# Altium schematic symbol library MS-Electronic.SchLib: 368 symbols (part 2 of 4)
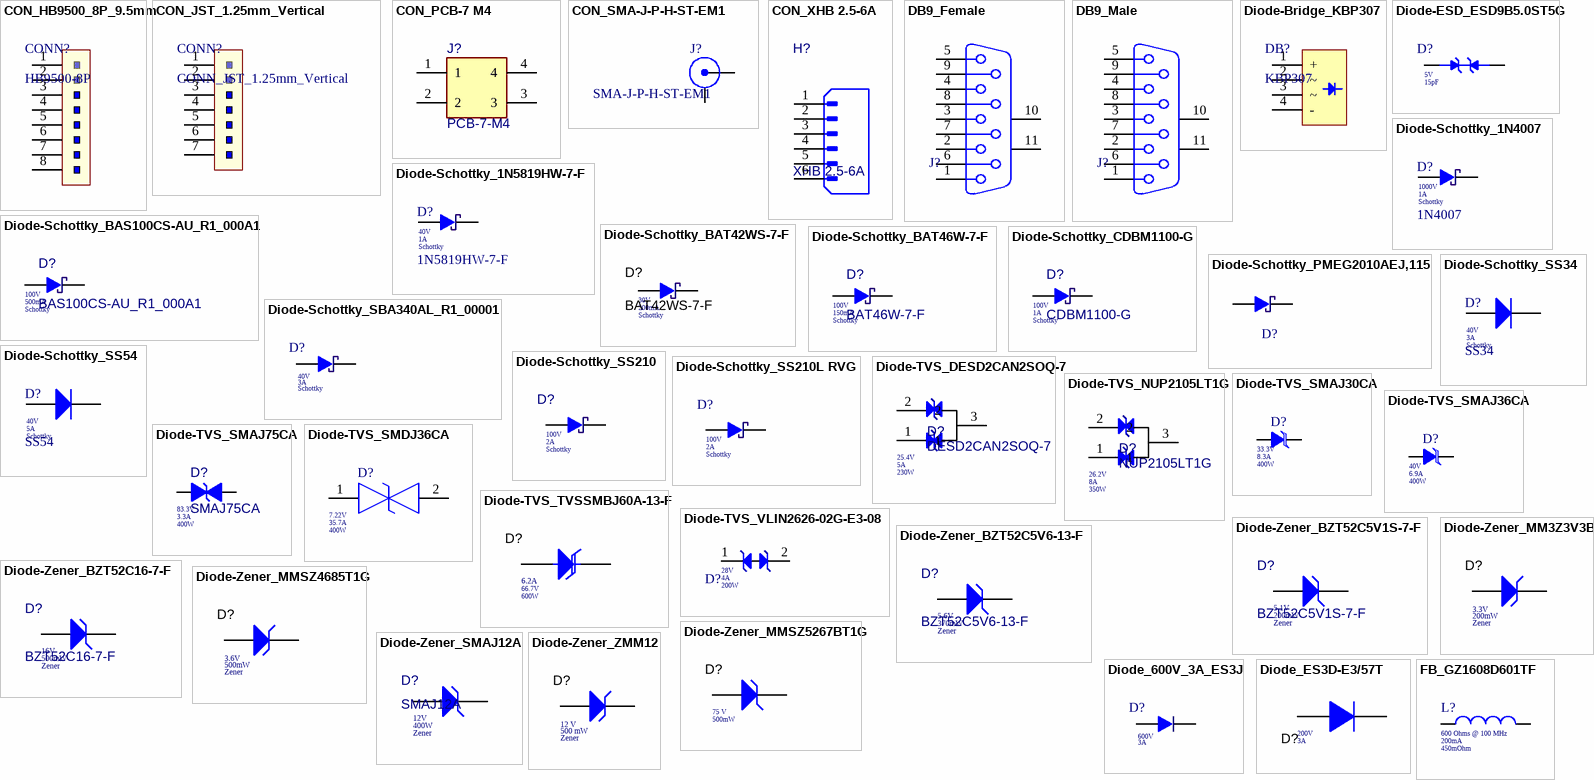
[diagram p12: symbols CON_HB9500_8P_9.5mm to FB_GZ1608D601TF]

## Diode-TVS_NUP2105LT1G
designator D?, comment NUP2105LT1G  Current - Peak Pulse: 8A  Power: 350W  Voltage - Breakdown: 26.2V
TVS DIODE 24VWM 44VC SOT233; Manufacturer: onsemi; Description SEL: TVS DIODE 24VWM 41VC SOT23; Sort: BIDIRECTIONAL; Voltage - Reverse: 24V; Voltage - Clamping: 44V; Part Number: NUP2105LT1G; Footprint Type: SMD; ComponentLink1Description: DIGIKEY; ComponentLink1URL: https://www.digikey.bg/en/products/detail/onsemi/NUP2105LT1G/1749081
footprint DIODE-TVS_NUP2105LT1G_SOT233
pins: 1, 2, 3

## Diode-TVS_SMAJ30CA
designator D?, comment Current: 8.3A  Voltage - Breakdown: 33.3V  Power: 400W  (hidden comment: SMAJ30CA)
TVS DIODE 30VWM 48.4VC DO214AC; Manufacturer: Littelfuse; Voltage - Clamping (Vcl): 48.4V; Polarity: Unidirectional; Voltage - Reverse Standoff (Vrwm): 30V; Diode Type: TVS Diode; Mounting Type: Surface Mount (SMD); Manufacturer Part Number: SMAJ30CA; ComponentLink1Description: CXT; ComponentLink1URL: https://linhkien.cxtvn.com/6001-smaj30ca-tvs-diode-30v-83a-smado-214ac.html; ComponentLink2Description: DIGIKEY; ComponentLink2URL: https://www.digikey.gr/en/products/detail/littelfuse-inc/SMAJ30CA/762295; Package: DO-214AC (SMA)
footprint DO214AC-SMA
pins: 1 C, 2 A

## Diode-TVS_SMAJ36CA
designator D?, comment Current: 6.9A  Voltage - Breakdown: 40V  Power: 400W  (hidden comment: SMAJ36CA)
TVS DIODE 36VWM 58.1VC DO214AC; Manufacturer: Littelfuse; Voltage - Clamping (Vcl): 58.1V; Polarity: Bidirectional; Voltage - Reverse Standoff (Vrwm): 36V; Diode Type: TVS Diode; Mounting Type: Surface Mount (SMD); Manufacturer Part Number: SMAJ36CA; ComponentLink1Description: CXT; ComponentLink1URL: https://linhkien.cxtvn.com/2361-smaj36ca-tvs-diode-36v-581v-smado214ac.html; ComponentLink2Description: DIGIKEY; ComponentLink2URL: https://www.digikey.com/en/products/detail/littelfuse-inc/SMAJ36CA/762299; Package: DO-214AC (SMA)
footprint DO214AC-SMA
pins: 1 C, 2 A

## Diode-TVS_SMAJ75CA
designator D?, comment SMAJ75CA  Current - Peak Pulse: 3.3A  Power - Peak Pulse: 400W  Voltage-Breakdown: 83.3V
121V Clamp 3.3A Ipp Tvs Diode Surface Mount DO-214AC (SMA); Description SEL: TVS DIODE 75VWM 121VC; Voltage-Reverse: 75V; Sort: Bidirectional; Part Number: SMAJ75CA; ComponentLink1Description: DIGIKEY; ComponentLink1URL: https://www.digikey.com/en/products/detail/bourns-inc/SMAJ75CA/2254545; Voltage - Clamping (Max): 121V; Package: DO214AC
footprint DIODE-TVS_DO-214AC_SMAJ75CA
pins: 1 A, 2 K

## Diode-TVS_SMDJ36CA
designator D?, comment Power - Peak Pulse: 400W  Current - Peak Pulse: 35.7A  Voltage - Breakdown (Min): 7.22V  (hidden comment: SMAJ6.5CA)
11.2V Clamp 35.7A Ipp Tvs Diode Surface Mount DO-214AC (SMA); Description SEL: TVS DIODE 6.5VWM 11.2VC DO214AC; Voltage - Reverse: 6.5V; Sort: Bidirectional; Part Number: SMAJ6.5CA; ComponentLink1Description: New link; ComponentLink1URL: https://www.digikey.com/en/products/detail/littelfuse-inc/SMAJ6-5CA/762255; Voltage - Clamping (Max): 11.2V; Package: DO-214AC, SMA
footprint DO-214AC
pins: 1, 2

## Diode-TVS_TVSSMBJ60A-13-F
designator D?, comment Power - Peak Pulse: 600W  Voltage - Breakdown (Min): 66.7V  Current - Peak Pulse: 6.2A  (hidden comment: SMBJ60A-13-F)
96.8V Clamp 6.2A Ipp Tvs Diode Surface Mount SMB; Manufacturer: Diodes Inc.; Description SEL: TVS DIODE 60VWM 96.8VC SMB; Voltage - Reverse: 60V; Part Number: SMBJ60A; ComponentLink1Description: DIGIKEY; ComponentLink1URL: https://www.digikey.bg/en/products/detail/diodes-incorporated/SMBJ60A-13-F/814633?s=N4IgTCBcDaIMoFkBCApAbABgIIFoCMAzDgGIgC6AvkA; Voltage - Clamping (Max): 96.8V
footprint DIODE-TVS_SMBJ60A-13-F
pins: 1 A, 2 K

## Diode-TVS_VLIN2626-02G-E3-08
designator D?, comment Current - Peak Pulse: 4A  Power - Peak Pulse: 200W  Voltage - Breakdown (Min): 28V  (hidden comment: VLIN2626-02G-E3-08)
50V Clamp 4A (8/20µs) Ipp Tvs Diode Surface Mount SOD-323; Manufacturer: Vishay; Description SEL: TVS DIODE 26.5VWM 50VC SOD323; Voltage - Reverse: 26.5V (Max); Part Number: VLIN2626-02G-E3-08; Voltage - Clamping (Max): 50V; ComponentLink1Description: DIGIKEY; ComponentLink1URL: https://www.digikey.com/en/products/detail/vishay-general-semiconductor-diodes-division/VLIN2626-02G-E3-08/6021436?s=N4IgTCBcDaIGoBkCSA5MA2DBaADGA4lgKIDMuAHCALoC%2BQA; Package: SOD-323
footprint DIODE-TVS_26.5V_4A_VLIN2626-02G-E3-08
pins: 1, 2

## Diode-Zener_BZT52C5V1S-7-F
designator D?, comment BZT52C5V1S-7-F  Type: Zener  Voltage: 5.1V  Power: 200mW
Zener Diode 5.1 V 200 mW ±6% Surface Mount SOD-323; Manufacturer: Diodes Incorporated; Part Number: BZT52C5V1S-7-F; Footprint Type: SMD; ComponentLink1Description: DIGIKEY; ComponentLink1URL: https://www.digikey.bg/en/products/detail/diodes-incorporated/BZT52C5V1S-7-F/717737; Package: SOD-123
footprint DIODE-ZENER_BZT52C5V1S-7-F_SOD323
pins: 1 A, 2 K

## Diode-Zener_BZT52C5V6-13-F
designator D?, comment BZT52C5V6-13-F  Type: Zener  Voltage: 5.6V  Power: 370mW
DIODE ZENER 5.6V 370MW SOD123; Manufacturer: Diodes Incorporated; Part Number: BZT52C5V6-13-F; Footprint Type: SMD; Description SEL: DIODE ZENER 5.6V 370MW SOD123; ComponentLink1Description: DIGIKEY; ComponentLink1URL: https://www.digikey.com/en/products/detail/diodes-incorporated/BZT52C5V6-13-F/1534399?s=N4IgTCBcDaIEIC0AqBWMBhFA1AbAWgEYBmPAMRAF0BfIA; Package: SOD123
footprint DIODE-ZENER_BZT52C5V6-13-F
pins: 1 A, 2 K

## Diode-Zener_BZT52C16-7-F
designator D?, comment BZT52C16-7-F  Type: Zener  Voltage: 16V  Power: 500mW
Zener Diode 16 V 500 mW ±6% Surface Mount SOD-123; Manufacturer: Diodes Incorporated; Description SEL: DIODE ZENER 16V 500MW SOD123; Part Number: BZT52C16-7-F; Footprint Type: SMD; ComponentLink1Description: DIGIKEY; ComponentLink1URL: https://www.digikey.com/en/products/detail/diodes-incorporated/BZT52C16-7-F/717729?s=N4IgTCBcDaIEIC0AqBWMBhAjANgLQHZcAxEAXQF8g; Package: SOD-123
footprint DIODE-ZENER_16V_500mW_BZT52C16-7-F
pins: 1 A, 2 K

## Diode-Zener_MM3Z3V3B
designator D?, comment Type: Zener  Power: 200mW  Voltage: 3.3V  (hidden comment: MM3Z3V3B)
Zener Diode 3.3 V 200 mW ±2% Surface Mount SOD-323F; Manufacturer: ON Semiconductor; Part Number: MM3Z3V3B; ComponentLink1Description: DIGIKEY; ComponentLink1URL: https://www.digikey.com/en/products/detail/onsemi/MM3Z3V3B/1626765?s=N4IgTCBcDaILJwMwC1EDVECEAqAlAtAHIAiIAugL5A; Package: SOD-323F; Operating Temperature: -65°C ~ 150°C; MSL: 1
footprint DIODE-ZENER_SOD-323FL_MM3Z3V3B
pins: 1 A, 2 K

## Diode-Zener_MMSZ4685T1G
designator D?, comment Type: Zener  Power: 500mW  Voltage: 3.6V  (hidden comment: MMSZ4685T1G)
Zener Diode 3.6 V 500 mW ±5% Surface Mount SOD-123; Manufacturer: ON Semiconductor; Part Number: BZT52C3V6-7-F; Description SEL: DIODE ZENER 3.6V 500MW SOD123; ComponentLink1Description: DIGIKEY; ComponentLink1URL: https://www.digikey.com/en/products/detail/onsemi/MMSZ4685T1G/919719; Package: SOD-123
footprint DIODE-ZENER_3.6V_500mW_MMSZ4685T1G
pins: 1 A, 2 K

## Diode-Zener_MMSZ5267BT1G
designator D?, comment Power: 500mW  Voltage: 75 V  (hidden comment: MMSZ5267BT1G)
Diode, Zener, 75V, 500 mW, AEC-Q101, SOD-123; Manufacturer: ONSEMI; Description SEL: DIODE ZENER 75V 500MW SOD123; Part Number: MMSZ5267BT1G; Footprint Type: SMD; Package: SOD-123; ComponentLink1Description: DIGIKEY; ComponentLink1URL: https://www.digikey.bg/en/products/detail/onsemi/MMSZ5267BT1G/1749051
footprint DIODE-ZENER_MMSZ5267BT1G_SOD123
pins: 1 A, 2 K

## Diode-Zener_SMAJ12A
designator D?, comment SMAJ12A  Voltage: 12V  Power: 400W  Type: Zener
19.9V Clamp 20.1A Ipp Tvs Diode Surface Mount DO-214AC (SMA); Manufacturer: MDD; Description SEL: TVS DIODE 12VWM 19.9VC DO214AC; Footprint Type: SMD; ComponentLink1Description: TGIC; ComponentLink1URL: https://www.thegioiic.com/smaj12a; ComponentLink2Description: DIGIKEY; ComponentLink2URL: https://www.digikey.bg/en/products/detail/littelfuse-inc/SMAJ12A/762270; Package: DO-214AC
footprint DIODE-ZENER_SMAJ12A_DO-214AC
pins: 1 A, 2 K

## Diode-Zener_ZMM12
designator D?, comment Type: Zener  Power: 500 mW  Voltage: 12 V  (hidden comment: ZMM12)
DIODE ZENER 12V 500MW SOD80C; Manufacturer: Diotec Semiconductor; Part Number: ZMM12; ComponentLink1Description: BLK; ComponentLink1URL: https://banlinhkien.com/diode-zener-12w-12v-smd1206-zmm12-10c-p16838193.html; Package: DO-213AC; Operating Temperature: -50°C ~ 175°C; MSL: 1; ComponentLink2Description: DIGIKEY; ComponentLink2URL: https://www.digikey.com/en/products/detail/diotec-semiconductor/ZMM12/13155247
footprint DIODE-ZENER_ZMM12
pins: 1 K, 2 A

## Diode_600V_3A_ES3J
designator D?, comment Current: 3A  Voltage: 600V  (hidden comment: ES3J)
Diode 600 V 3A Surface Mount DO-214AB (SMC); ComponentLink1Description: TGIC; ComponentLink1URL: https://www.thegioiic.com/es3j-smc-diode-chinh-luu-3a-600v?gidzl=aC7rEZVjhncHsVSrDlQc79JQ-30fzlDFsDsiP7_s_KYAt_Sr8QQc6z7Q_p0ZzgSSWut_FsMJ6caRD-kg6G; ComponentLink2Description: DIGIKEY; ComponentLink2URL: https://www.digikey.com/en/products/detail/onsemi/ES3J/1087635
footprint Diode_600V_3A_ES3J
pins: 1 A, 2 K

## Diode_ES3D-E3/57T
designator D?, comment Voltage: 200V  Current: 3A  (hidden comment: ES3D-E3/57T)
Diode 200 V 3A Surface Mount DO-214AB (SMC); Manufacturer: Vishay-Semiconductor; Description SEL: DIODE GEN PURP 200V 3A DO214AB; Part Number: ES3D-E3/57T; Footprint Type: SMD; ComponentLink1Description: DIGIKEY; ComponentLink1URL: https://www.digikey.bg/en/products/detail/vishay-general-semiconductor-diodes-division/ES3D-E3-57T/1091448?s=N4IgTCBcDaIKIGUDMARAtHJB6ArAdgBUQBdAXyA; Package: DO-214AB (SMC)
footprint DIODE_ES3D-E3/57T_DO214AB
pins: 1 A, 2 K

## FB_GZ1608D601TF
designator L?, comment DC Resistance: 450mOhm  Current Rating (Max): 200mA  Impedance @ Frequency: 600 Ohms @ 100 MHz  (hidden comment: GZ1608D601TF)
600Ω @ 100MHz 1 200mA 450mΩ 0603 Ferrite Beads ROHS; Manufacturer: Sunlord; Manufacturer Part Number: GZ1608D601TF; LCSC Part Number: C1002; Package: 0603; Assembly Type: SMT Assembly; ComponentLink1Description: New link; ComponentLink1URL: https://www.digikey.com/en/products/detail/shenzhen-sunlord-electronics-co-ltd/GZ1608D601TF/14120345?s=N4IgTCBcDaIOIC0CMA2ADADgCLqQFQDEQBdAXyA
footprint FB_GZ1608D601TF
pins: 1, 2

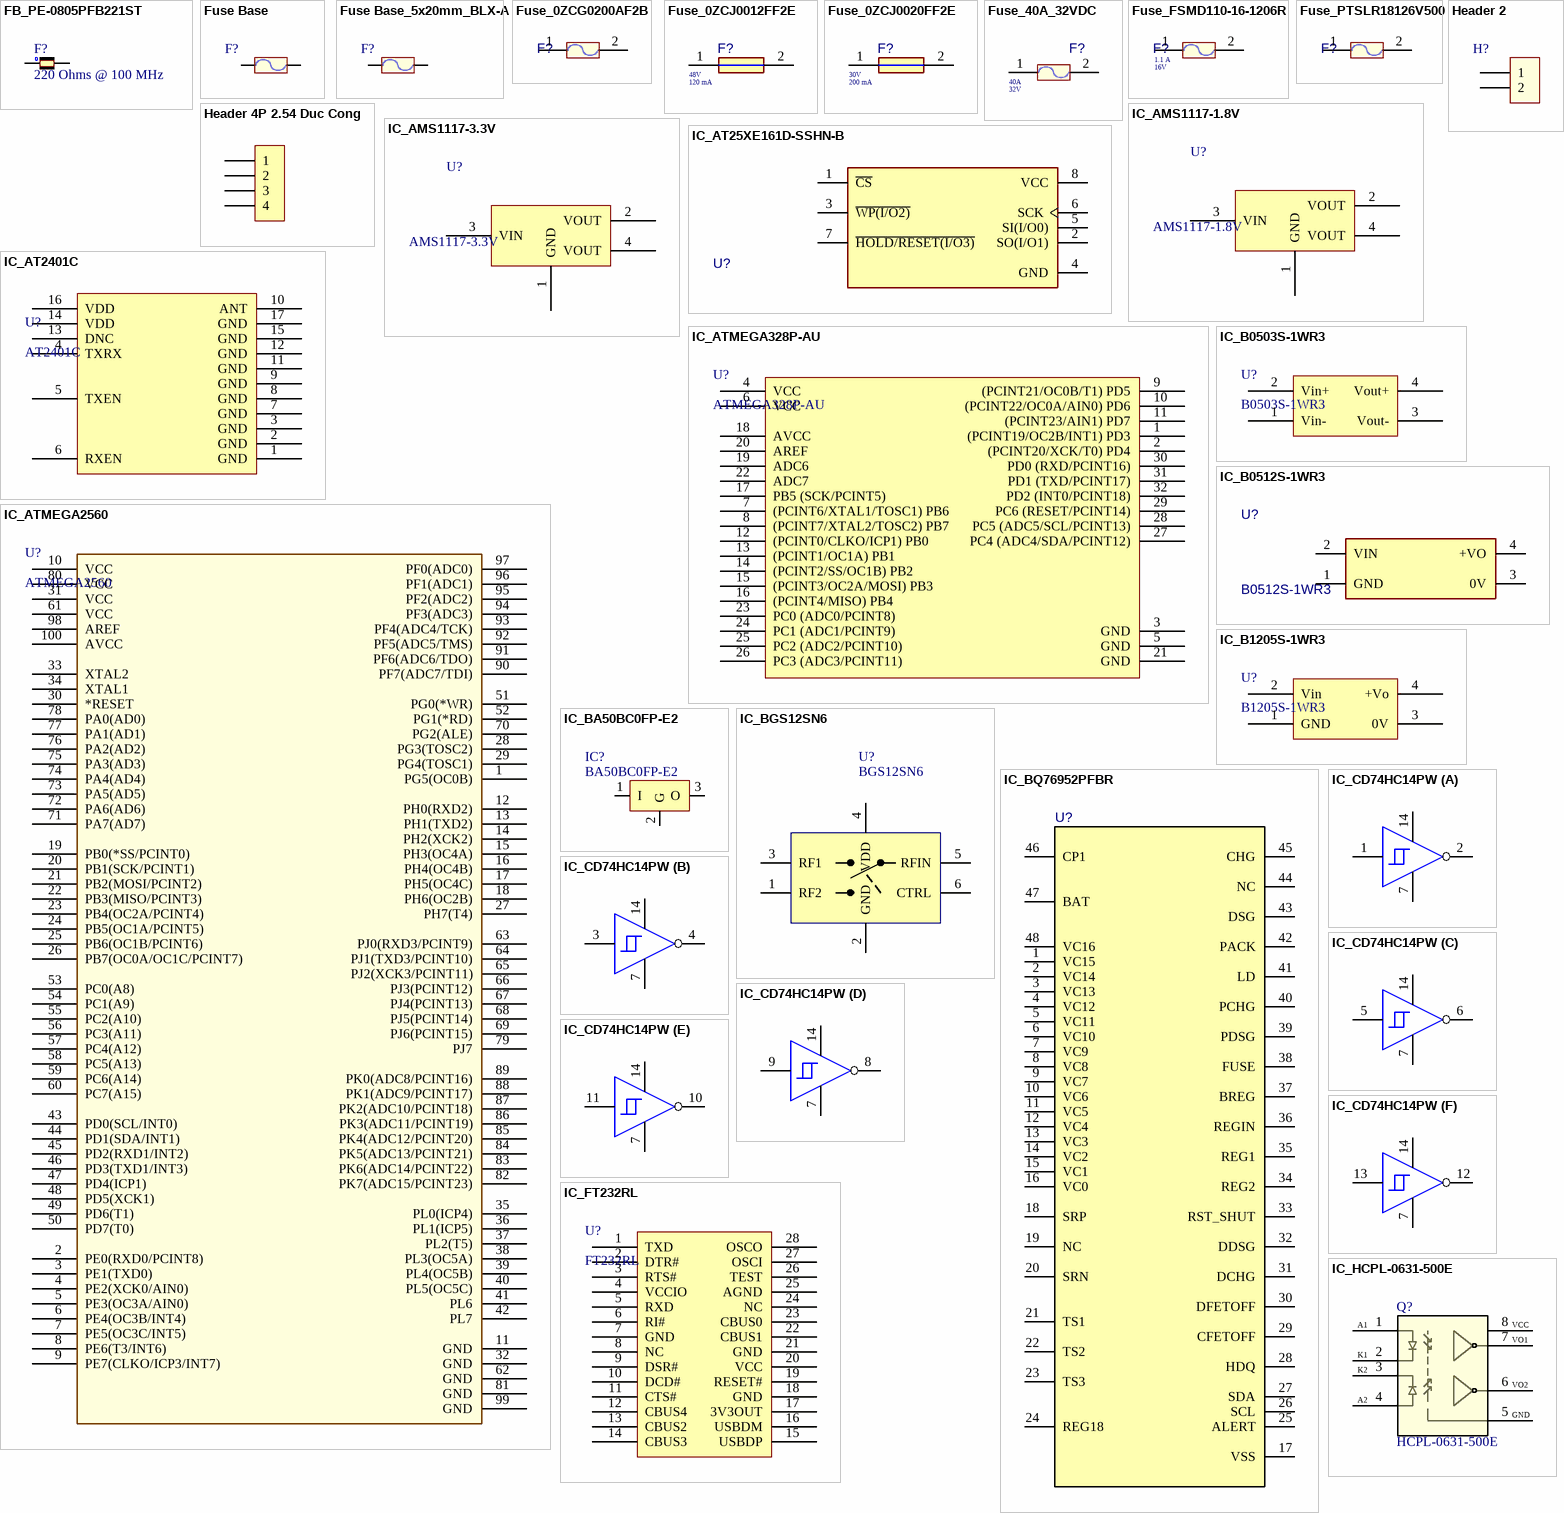
[diagram p3: symbols FB_PE-0805PFB221ST to IC_HCPL-0631-500E]

## FB_PE-0805PFB221ST
designator F?, comment value 220 Ohms @ 100 MHz  (hidden comment: PE-0805PFB221ST)
FERRITE BEAD 220 OHM 0805 1LN; Manufacturer: Pulse Electronics Network; Category: Filters; Part Number: PE-0805PFB221ST; Footprint/Package: 0805; Footprint type: SMD; ComponentLink2Description: DIGIKEY; ComponentLink2URL: https://www.digikey.com/en/products/detail/pulse-electronics/PE-0805PFB221ST/5050550?s=N4IgTCBcDaIAoFEC0AGAHCgrHAYgITDAEYBlAFRAF0BfIA
footprint FB-PE-0805PFB221ST
pins: 1, 2

## Fuse Base
designator F?  (value not drawn)
Fuse Base 5x20mm; Value: Fuse Base; Demension: 5x20mm; ComponentLink1Description: LKCL; ComponentLink1URL: https://linhkienchatluong.vn/de-cau-chi-cac-loai/de-cau-chi-5x20mm-chan-dong_sp767_ct4075.aspx
pins: 1, 2

## Fuse Base_5x20mm_BLX-A
designator F?, comment BLX-A  (value not drawn)
5x20mm; Part Number: BLX-A; Dimension: 5x20mm; ComponentLink1Description: BLK; ComponentLink1URL: https://banlinhkien.com/de-cau-chi-blxa-5x20mm-5-chiec-p22613696.html
footprint De Cau Chi BLX-A 520 (PCB - Clip Cover - THR)
pins: 1, 2

## Fuse_0ZCG0200AF2B
designator F?, comment 0ZCG0200AF2B  (value not drawn)
PTC RESET FUSE 16V 2A 1812; Manufacturer: Bel Fuse Inc.; Value: 2A/16V; Manufacturer Part Number: 0ZCG0200AF2B; ComponentLink1Description: DIGIKEY; ComponentLink1URL: https://www.digikey.bg/en/products/detail/bel-fuse-inc/0ZCG0200AF2B/6210545?s=N4IgTCBcDaIAwC0DCBxOY5wIIDEwCEQBdAXyA; ComponentLink2Description: CXT; ComponentLink2URL: https://linhkien.cxtvn.com/5126-cau-chi-tu-phuc-hoi-pptc-smd1812.html
footprint FUSE_0ZCG0200AF2B
pins: 1, 2

## Fuse_0ZCJ0012FF2E
designator F?, comment Current - Hold (Ih) (Max): 120 mA  Voltage - Max: 48V  (hidden comment: 0ZCJ0012FF2E)
PTC RESET FUSE 48V 120MA 1206; Manufacturer: Bel Circuit Protection; Current - Trip (It): 390 mA; Current - Max: 10 A; Part Number: 0ZCJ0012FF2E; Description SEL: PTC RESET FUSE 48V 120MA 1206; Size: 1206; ComponentLink2Description: DIGIKEY; ComponentLink2URL: https://www.digikey.bg/en/products/detail/bel-fuse-inc/0ZCJ0012FF2E/4156129?s=N4IgTCBcDaIAwC0DCApOcCMYBi2wFEQBdAXyA; Sort: PTC RESET
footprint FUSE_0ZCJ0020FF2E
pins: 1, 2

## Fuse_0ZCJ0020FF2E
designator F?, comment Current - Hold (Ih) (Max): 200 mA  Voltage - Max: 30V  (hidden comment: 0ZCJ0020FF2E)
PTC RESET FUSE 30V 200MA 1206; Manufacturer: Bel Circuit Protection; Current - Trip (It): 400 mA; Current - Max: 10 A; Part Number: 0ZCJ0020FF2E; Description SEL: PTC RESET FUSE 30V 200MA 1206; Size: 1206; ComponentLink1Description: TGIC; ComponentLink1URL: https://www.thegioiic.com/0zcj0020ff2e-cau-chi-tu-phuc-hoi-1206-30v-200ma; ComponentLink2Description: DIGIKEY; ComponentLink2URL: https://www.digikey.com/en/products/detail/bel-fuse-inc/0ZCJ0020FF2E/4156326; Sort: PTC RESET
footprint FUSE_0ZCJ0020FF2E
pins: 1, 2

## Fuse_40A_32VDC
designator F?, comment Voltage Rating - DC: 32V  Current Rating (Amps): 40A  (hidden comment: 0287030.PXCN)
40 A AC 32 V DC Fuse Automotive Requires Holder Blade, ATO/ATC; Manufacturer: LITTELFUSE; Part Number: 0287040.PXCN; Description SEL: FUSE AUTOMOTIVE 40A 32VDC BLADE; Sort: AUTO; Footprint Type: TH; ComponentLink1Description: LKCL; ComponentLink1URL: https://linhkienchatluong.vn/cau-chi-dep-o-to-xe-may/cau-chi-dep-40a-32v-chan-nho-cho-o-to-xe-may_sp996_ct14638.aspx; ComponentLink2Description: DIGIKEY; ComponentLink2URL: https://www.digikey.bg/en/products/detail/littelfuse-inc/0287040-PXCN/2519817?s=N4IgTCBcDaIAxgBwHY4BY4DoAKANAwgHIgC6AvkA; Package: 0.752" L x 0.201" W x 0.484" H (19.10mm x 5.10mm x 12.30mm)
footprint FUSE_TH_30A
pins: 1, 2

## Fuse_FSMD110-16-1206R
designator F?, comment Voltage - Max: 16V  Current - Hold (Ih) (Max): 1.1 A  (hidden comment: FSMD110-16-1206R)
RESETTABLE FUSE - SMD, 1206 SIZE; Current - Trip (It): 2.2 A; Current - Max: 100 A; Description SEL: RESETTABLE FUSE - SMD, 1206 SIZE; Part Number: FSMD110-16-1206R; ComponentLink1Description: New link; Sort: RESETTABLE; Package: 1206
footprint FUSE_1206
pins: 1, 2

## Fuse_PTSLR18126V500
designator F?, comment PTSLR18126V500  (value not drawn)
Polymeric PTC Resettable Fuse 6V 5 A Ih Surface Mount 1812 (4532 Metric), Concave; Manufacturer: Eaton - Electronics Division; Value: 5A/6V; Manufacturer Part Number: PTSLR18126V500; ComponentLink1Description: DIGIKEY; ComponentLink1URL: https://www.digikey.bg/en/products/detail/eaton-electronics-division/PTSLR18126V500/12313952; ComponentLink2Description: CXT; ComponentLink2URL: https://linhkien.cxtvn.com/8771-cau-chi-tu-phuc-hoi-pptc-smd1812.html
footprint FUSE_0ZCG0200AF2B
pins: 1, 2

## Header 2
designator H?
Header 2 (Green); Voltage: 300V; Current: 15A; Pitch: 5.08mm; ComponentLink1Description: BLK; ComponentLink1URL: https://banlinhkien.com/con-2-2edg5.082p-5.08mm-xanh-cong-p6651835.html
footprint Header2T
pins: 1, 2

## Header 4P 2.54 Duc Cong
designator H?  (value not drawn)
Header 4P XH2.54-4P Đực Cong; Pitch: 2.54mm; Number Pin: 4; ComponentLink1Description: BLK; ComponentLink1URL: https://banlinhkien.com/header-4p-xh2.544p-duc-cong-10-chiec-p22290874.html
footprint Header 4P 2.54 Duc Cong
pins: 1, 2, 3, 4

## IC_AMS1117-1.8V
designator U?, comment AMS1117-1.8V
Linear Voltage Regulator IC Positive Fixed 1 Output 1A SOT-223-3L; Vout: 1.8V; Vin Max: 18V; ComponentLink1Description: BLK; ComponentLink1URL: https://banlinhkien.com/ams11171.8v-sot223-p6651250.html; Current Max: 1A; Package: SOT-223; Sort: SOT-223
footprint SOT223
pins: 1 GND, 2 VOUT, 3 VIN, 4 VOUT

## IC_AMS1117-3.3V
designator U?, comment AMS1117-3.3V
Linear Voltage Regulator IC Positive Fixed 1 Output 1A SOT-223-3L; Vin Max: 15V; Vout: 3.3; Sort: LDO; ComponentLink1Description: BLK; ComponentLink1URL: https://banlinhkien.com/ams11173.3v-sot223-p6651251.html; Current Max: 1A; Package: SOT-223
footprint SOT223
pins: 1 GND, 2 VOUT, 3 VIN, 4 VOUT

## IC_AT25XE161D-SSHN-B
designator U?, comment AT25XE161D-SSHN-B  (value not drawn)
NOR Flash 16 Mbit, Wide Vcc (1.65V to 3.6V); Manufacturer: Renesas Electronics Corporation; Description SEL: IC FLASH 16MBIT SPI/QUAD 8SOIC; Cross Component: W25Q80DVSSIG; Part Number: AT25XE161D-SSHN-B; ComponentLink1Description: DIGIKEY; ComponentLink1URL: https://www.digikey.bg/en/products/detail/renesas-electronics-corporation/AT25XE161D-SSHN-B/18717039; Sort: FLASH
footprint IC_AT25XE161D-SSHN-B
pins: 1 ~{CS}, 2 SO(I/O1), 3 ~{WP(I/O2)}, 4 GND, 5 SI(I/O0), 6 SCK, 7 ~{HOLD/RESET(I/O3)}, 8 VCC

## IC_AT2401C
designator U?, comment AT2401C
ZigBee 2V~3.6V QFN-16-EP(3x3) RF Front End Circuits ROHS; Sort: RF and Wireless; ComponentLink1Description: Aliexpress; ComponentLink1URL: https://vi.aliexpress.com/i/1005004853615083.html?gatewayAdapt=glo2vnm; Package: QFN-16-EP(3x3); ComponentLink2Description: LCSC; ComponentLink2URL: https://www.lcsc.com/product-detail/RF-Front-End-Circuits_ZHONGKEWEI-AT2401C_C783588.html
footprint IC_AT2401C
pins: 1 GND, 2 GND, 3 GND, 4 TXRX, 5 TXEN, 6 RXEN, 7 GND, 8 GND, 9 GND, 10 ANT, 11 GND, 12 GND, 13 DNC, 14 VDD, 15 GND, 16 VDD, 17 GND

## IC_ATMEGA328P-AU
designator U?, comment ATMEGA328P-AU
AVR AVR® ATmega Microcontroller IC 8-Bit 20MHz 32KB (16K x 16) FLASH 32-TQFP (7x7); Sort: MCU; ComponentLink1Description: New link; ComponentLink1URL: https://banlinhkien.com/atmega328pau-tqfp32-p6653725.html; Package: 32-TQFP
footprint IC_ATMEGA328P-AU
pins: 1 (PCINT19/OC2B/INT1) PD3, 2 (PCINT20/XCK/T0) PD4, 3 GND, 4 VCC, 5 GND, 6 VCC, 7 (PCINT6/XTAL1/TOSC1) PB6, 8 (PCINT7/XTAL2/TOSC2) PB7, 9 (PCINT21/OC0B/T1) PD5, 10 (PCINT22/OC0A/AIN0) PD6, 11 (PCINT23/AIN1) PD7, 12 (PCINT0/CLKO/ICP1) PB0, 13 (PCINT1/OC1A) PB1, 14 (PCINT2/SS/OC1B) PB2, 15 (PCINT3/OC2A/MOSI) PB3, 16 (PCINT4/MISO) PB4, 17 PB5 (SCK/PCINT5), 18 AVCC, 19 ADC6, 20 AREF, 21 GND, 22 ADC7, 23 PC0 (ADC0/PCINT8), 24 PC1 (ADC1/PCINT9), 25 PC2 (ADC2/PCINT10), 26 PC3 (ADC3/PCINT11), 27 PC4 (ADC4/SDA/PCINT12), 28 PC5 (ADC5/SCL/PCINT13), 29 PC6 (RESET/PCINT14), 30 PD0 (RXD/PCINT16), 31 PD1 (TXD/PCINT17), 32 PD2 (INT0/PCINT18)

## IC_ATMEGA2560
designator U?, comment ATMEGA2560
AVR AVR® ATmega Microcontroller IC 8-Bit 16MHz 256KB (128K x 16) FLASH 100-TQFP (14x14); Sort: MCU; ComponentLink1Description: New link; ComponentLink1URL: https://banlinhkien.com/atmega256016au-tqfp100-p6649411.html; Package: 100-TQFP
footprint IC_ATMEGA2560AU
pins: 1 PG5(OC0B), 2 PE0(RXD0/PCINT8), 3 PE1(TXD0), 4 PE2(XCK0/AIN0), 5 PE3(OC3A/AIN0), 6 PE4(OC3B/INT4), 7 PE5(OC3C/INT5), 8 PE6(T3/INT6), 9 PE7(CLKO/ICP3/INT7), 10 VCC, 11 GND, 12 PH0(RXD2), 13 PH1(TXD2), 14 PH2(XCK2), 15 PH3(OC4A), 16 PH4(OC4B), 17 PH5(OC4C), 18 PH6(OC2B), 19 PB0(*SS/PCINT0), 20 PB1(SCK/PCINT1), 21 PB2(MOSI/PCINT2), 22 PB3(MISO/PCINT3), 23 PB4(OC2A/PCINT4), 24 PB5(OC1A/PCINT5), 25 PB6(OC1B/PCINT6), 26 PB7(OC0A/OC1C/PCINT7), 27 PH7(T4), 28 PG3(TOSC2), 29 PG4(TOSC1), 30 *RESET, 31 VCC, 32 GND, 33 XTAL2, 34 XTAL1, 35 PL0(ICP4), 36 PL1(ICP5), 37 PL2(T5), 38 PL3(OC5A), 39 PL4(OC5B), 40 PL5(OC5C), 41 PL6, 42 PL7, 43 PD0(SCL/INT0), 44 PD1(SDA/INT1), 45 PD2(RXD1/INT2), 46 PD3(TXD1/INT3), 47 PD4(ICP1), 48 PD5(XCK1), 49 PD6(T1), 50 PD7(T0), 51 PG0(*WR), 52 PG1(*RD), 53 PC0(A8), 54 PC1(A9), 55 PC2(A10), 56 PC3(A11), 57 PC4(A12), 58 PC5(A13), 59 PC6(A14), 60 PC7(A15), 61 VCC, 62 GND, 63 PJ0(RXD3/PCINT9), 64 PJ1(TXD3/PCINT10), 65 PJ2(XCK3/PCINT11), 66 PJ3(PCINT12), 67 PJ4(PCINT13), 68 PJ5(PCINT14), 69 PJ6(PCINT15), 70 PG2(ALE), 71 PA7(AD7), 72 PA6(AD6), 73 PA5(AD5), 74 PA4(AD4), 75 PA3(AD3), 76 PA2(AD2), 77 PA1(AD1), 78 PA0(AD0), 79 PJ7, 80 VCC, 81 GND, 82 PK7(ADC15/PCINT23), 83 PK6(ADC14/PCINT22), 84 PK5(ADC13/PCINT21), 85 PK4(ADC12/PCINT20), 86 PK3(ADC11/PCINT19), 87 PK2(ADC10/PCINT18), 88 PK1(ADC9/PCINT17), 89 PK0(ADC8/PCINT16), 90 PF7(ADC7/TDI), 91 PF6(ADC6/TDO), 92 PF5(ADC5/TMS), 93 PF4(ADC4/TCK), 94 PF3(ADC3), 95 PF2(ADC2), 96 PF1(ADC1), 97 PF0(ADC0), 98 AREF, 99 GND, 100 AVCC

## IC_B0503S-1WR3
designator U?, comment B0503S-1WR3
Isolated Module DC DC Converter 1 Output 3.3V 303mA 4.5V - 5.5V Input; Sort: Module Isolated DC-DC; ComponentLink1Description: HS; ComponentLink1URL: https://hshop.vn/nguon-cach-ly-dc-dc-isolated-power-module-hi-link-hlk-b0503s-1wr3-5vdc-to-3-3vdc-1w; ComponentLink2Description: DIGIKEY; ComponentLink2URL: https://www.digikey.bg/en/products/detail/mornsun-america-llc/B0503S-1WR3/13168314?s=N4IgTCBcDaIEIAYCsCDMBlAtARgOoCVUQBdAXyA
footprint IC_B0503S-1WR3
pins: 1 Vin-, 2 Vin+, 3 Vout-, 4 Vout+

## IC_B0512S-1WR3
designator U?, comment B0512S-1WR3
Isolated Module DC DC Converter 1 Output 12V 84mA 4.5V - 5.5V Input; Power: 1W; Description SEL: DC DC CONVERTER 12V 1W; Part Number: B0512S-1WR3; Input: 4.5V-5.5V; Output: 12V; Current: 84mA; ComponentLink1Description: CXT; ComponentLink1URL: https://linhkien.cxtvn.com/6106-b0512s-1wr3-dc-dc-converter-12v-1w.html; ComponentLink2Description: DIGIKEY; ComponentLink2URL: https://www.digikey.at/en/products/detail/mornsun-america-llc/B0512S-1WR3/13168229?s=N4IgTCBcDaIEIAYCsBGMBlAtCg6gJQGYQBdAXyA
footprint IC_ROE-0512S
pins: 1 GND (power), 2 VIN, 3 0V, 4 +VO

## IC_B1205S-1WR3
designator U?, comment B1205S-1WR3
Isolated Module DC DC Converter 1 Output 5V 200mA 10.8V - 13.2V Input; Sort: DC DC CONVERTER 5V 1W; ComponentLink1Description: HS; ComponentLink1URL: https://hshop.vn/nguon-cach-ly-dc-dc-isolated-power-module-hi-link-hlk-b1205s-1wr3-12vdc-to-5vdc-1w; ComponentLink2Description: DIGIKEY; ComponentLink2URL: https://www.digikey.com/en/products/detail/mornsun-america-llc/B1205S-1WR3/13968668?s=N4IgTCBcDaIEIEYwAYCsBlAtAg6gJQGYQBdAXyA
footprint IC_B0503S-1WR3
pins: 1 GND, 2 Vin, 3 0V, 4 +Vo

## IC_BA50BC0FP-E2
designator IC?, comment BA50BC0FP-E2
IC REG LINEAR 5V 1A TO252-2; Manufacture: Rohm Semiconductor; ComponentLink2Description: DIGIKEY; ComponentLink2URL: https://www.digikey.com/en/products/detail/rohm-semiconductor/BA50BC0FP-E2/722207?s=N4IgTCBcDaIEIEECsAGOBhFAxACgWgFEIBdAXyA; Footprint type: SMD; Category: IC; Part Number: BA50BC0FP-E2
footprint IC_BA50BC0FP-E2
pins: 1 I (power), 2 G (power), 3 O (power)

## IC_BGS12SN6
designator U?, comment BGS12SN6
DC switch - Ultra-Low  SPDT analog switch; Manufacturer: INFINEON; Sort: RF Switch; Manufacturer_Part_Number: BGS12SN6; ComponentLink1Description: MOUSER; ComponentLink1URL: https://www.mouser.vn/ProductDetail/Infineon-Technologies/BGS12SN6E6327XTSA1?qs=3%2FhYFTG7CVeGtqdjCCQooA%3D%3D
footprint SON40P70X40-6N (SON, 6-Leads, Body 1.10x0.70mm, Pitch 0.40mm)
pins: 1 RF2, 2 GND, 3 RF1, 4 VDD, 5 RFIN, 6 CTRL

## IC_BQ76952PFBR
designator U?, comment BQ76952PFBR  (value not drawn)
IC BAT LIFEPO4/LI-ION 3-16C TQFP; Manufacturer: Texas Instruments; Point: 48; Part Number: BQ76952PFBR; Description SEL: IC BAT LIFEPO4/LI-ION 3-16C TQFP; ComponentLink1Description: DIGIKEY; ComponentLink1URL: https://www.digikey.com/en/products/detail/texas-instruments/BQ76952PFBR/13427864
footprint IC_BQ76952PFBR
pins: 1 VC15, 2 VC14, 3 VC13, 4 VC12, 5 VC11, 6 VC10, 7 VC9, 8 VC8, 9 VC7, 10 VC6, 11 VC5, 12 VC4, 13 VC3, 14 VC2, 15 VC1, 16 VC0, 17 VSS, 18 SRP, 19 NC, 20 SRN, 21 TS1, 22 TS2, 23 TS3, 24 REG18, 25 ALERT, 26 SCL, 27 SDA, 28 HDQ, 29 CFETOFF, 30 DFETOFF, 31 DCHG, 32 DDSG, 33 RST_SHUT, 34 REG2, 35 REG1, 36 REGIN, 37 BREG, 38 FUSE, 39 PDSG, 40 PCHG, 41 LD, 42 PACK, 43 DSG, 44 NC, 45 CHG, 46 CP1, 47 BAT, 48 VC16

## IC_CD74HC14PW
designator U?, comment CD74HC14PW  (value not drawn)
IC INVERTER 6CH 1-INP 14TSSOP; Manufacturer: Texas Instruments; Voltage - Supply: 2V ~ 6V; Input Logic Level - Low: 0.3V ~ 1.2V; Input Logic Level - High: 1.5V ~ 4.2V; Number of Chanel: 6; Part Number: CD74HC14PW; Footprint/Package: 14-TSSOP; Sort: IC INVERTER; ComponentLink1Description: DIGIKEY; ComponentLink1URL: https://www.digikey.com/en/products/detail/texas-instruments/CD74HC14PW/1506665
footprint IC_CD74HC14PW
part A pins: 1 1A, 2 1Y, 7 GND, 14 VCC
part B pins: 3 2A, 4 2Y, 7 GND, 14 VCC
part C pins: 5 3A, 6 3Y, 7 GND, 14 VCC
part D pins: 7 GND, 8 4Y, 9 4A, 14 VCC
part E pins: 7 GND, 10 5Y, 11 5A, 14 VCC
part F pins: 7 GND, 12 6Y, 13 6A, 14 VCC

## IC_FT232RL
designator U?, comment FT232RL
USB FULL SPEED TO SERIAL UART IC; Sort: USB FS SERIAL UART; ComponentLink1Description: LKCG; ComponentLink1URL: https://lkcg.vn/linh-kien-ic-ft232rl-chan-dan-ssop28; ComponentLink2Description: DIGIKEY; ComponentLink2URL: https://www.digikey.bg/en/products/detail/ftdi-future-technology-devices-international-ltd/FT232RNL-REEL/16836345
footprint IC_FT232RL
pins: 1 TXD, 2 DTR#, 3 RTS#, 4 VCCIO, 5 RXD, 6 RI#, 7 GND, 8 NC, 9 DSR#, 10 DCD#, 11 CTS#, 12 CBUS4, 13 CBUS2, 14 CBUS3, 15 USBDP, 16 USBDM, 17 3V3OUT, 18 GND, 19 RESET#, 20 VCC, 21 GND, 22 CBUS1, 23 CBUS0, 24 NC, 25 AGND, 26 TEST, 27 OSCI, 28 OSCO

## IC_HCPL-0631-500E
designator Q?, comment HCPL-0631-500E
OPTOISO 3.75KV 2CH OPEN COLL 8SO; Mfr_Name: Broadcom; Type: Optoisolators; ComponentLink1Description: LKD; ComponentLink1URL: https://banlinhkiendientu.vn/hcpl-0631/; ComponentLink2Description: DIGIKEY; ComponentLink2URL: https://www.digikey.com/en/products/detail/broadcom-limited/HCPL-0631-500E/768373; MSL: 1; Temperature: -40°C ~ 85°C
footprint IC_HCPL-0631-500E
pins: 1, 2, 3, 4, 5 GND, 6, 7, 8
text: A1; VCC; VO1; K1; K2; VO2; A2

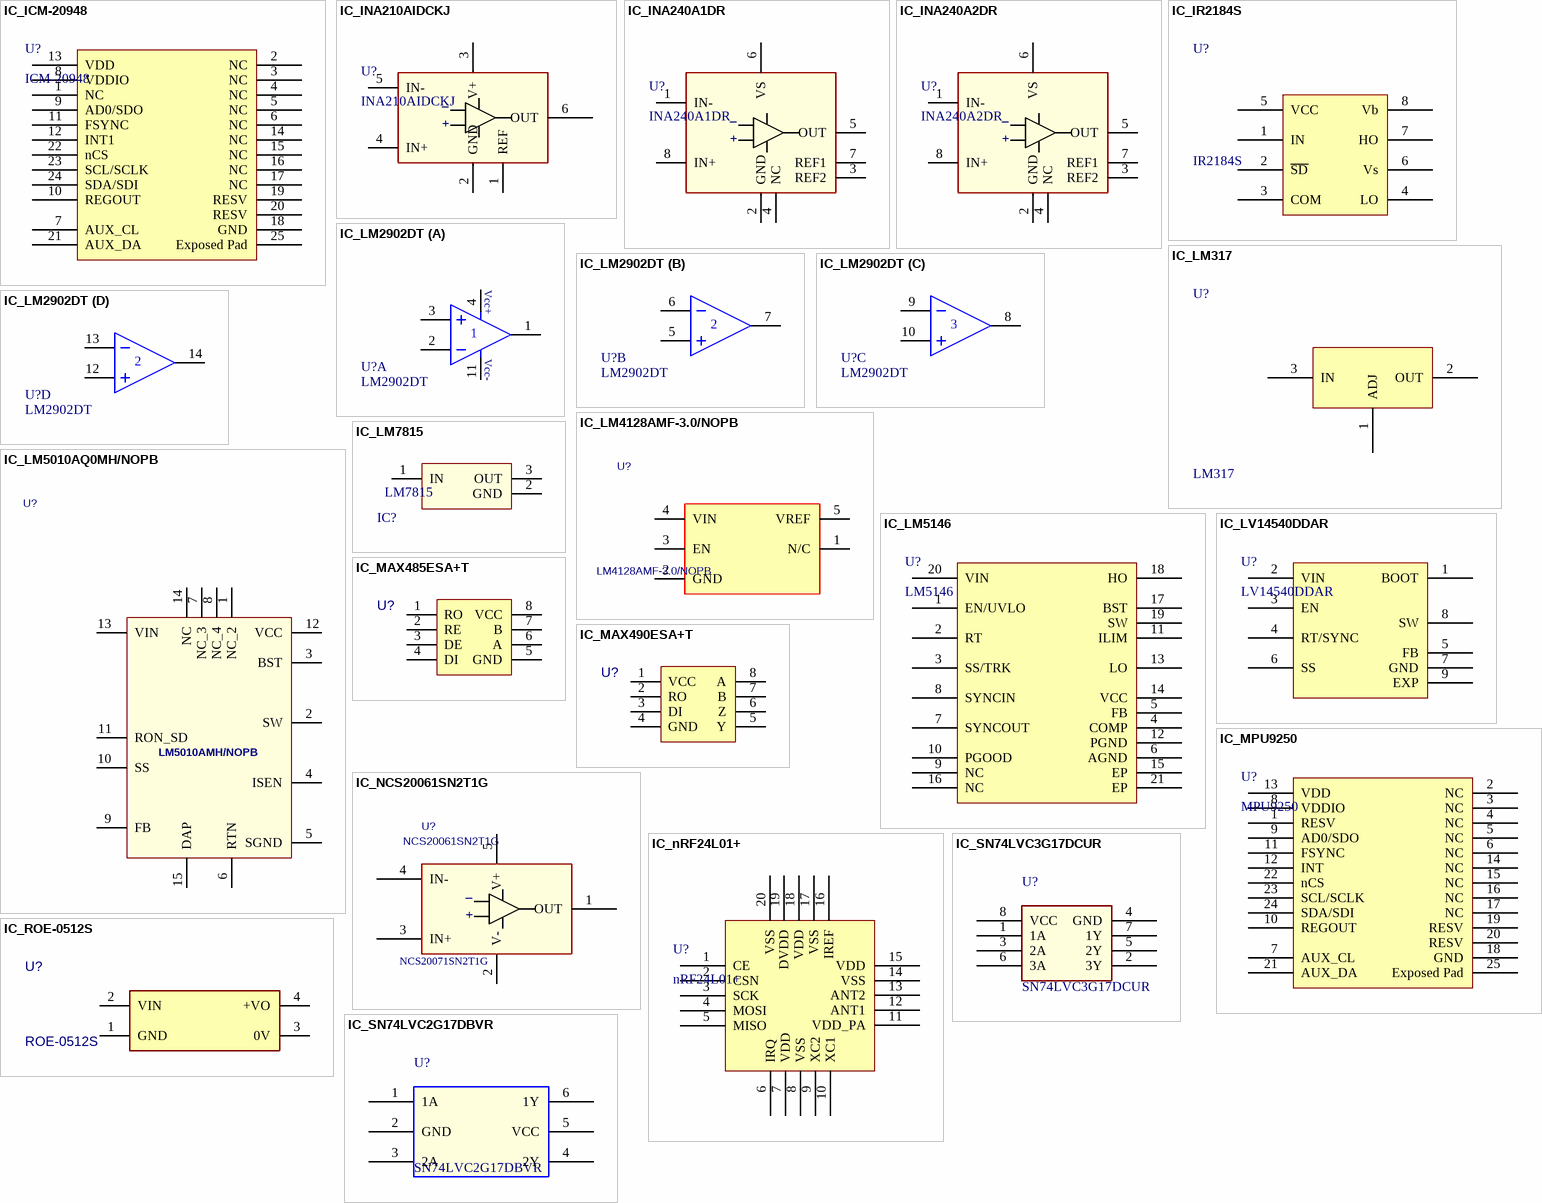
[diagram p4: symbols IC_ICM-20948 to IC_SN74LVC3G17DCUR]

## IC_ICM-20948
designator U?, comment ICM-20948
Accelerometer, Gyroscope, Magnetometer, 9 Axis Sensor I2C, SPI Output; Sort: IMU; ComponentLink1Description: DIGIKEY; ComponentLink1URL: https://www.digikey.com/en/products/detail/tdk-invensense/ICM-20948/6623535; Package: 24-QFN
footprint IC_MPU9250
pins: 1 NC, 2 NC, 3 NC, 4 NC, 5 NC, 6 NC, 7 AUX_CL, 8 VDDIO, 9 AD0/SDO, 10 REGOUT, 11 FSYNC, 12 INT1, 13 VDD, 14 NC, 15 NC, 16 NC, 17 NC, 18 GND, 19 RESV, 20 RESV, 21 AUX_DA, 22 nCS, 23 SCL/SCLK, 24 SDA/SDI, 25 Exposed Pad

## IC_INA210AIDCKJ
designator U?, comment INA210AIDCKJ
Current Sense Amplifier 1 Circuit Single-Ended SC-70-6; Manufacturer: Texas Instruments; Voltage - Supply: 2.7 - 26V; Current - Supply: 65uA; Part Number: INA210AIDCKJ; Output Type: Single-Ended; Package: SC-70-6; ComponentLink1Description: DIGIKEY; ComponentLink1URL: https://www.digikey.com/en/products/detail/texas-instruments/INA210AIDCKJ/23331470
footprint IC_INA210AIDCKJ
pins: 1 REF, 2 GND, 3 V+, 4 IN+, 5 IN-, 6 OUT
text: _; +

## IC_INA240A1DR
designator U?, comment INA240A1DR
IC CURRENT SENSE 1 CIRCUIT 8SOIC; Manufacturer: Texas Instruments; Voltage - Supply: 2.7 - 5.5V; Current - Supply: 1.8mA; Part Number: INA240A1DR; Package: 8-SOIC; ComponentLink1Description: DIGIKEY; ComponentLink1URL: https://www.digikey.com/en/products/detail/texas-instruments/INA240A1DR/8538109
footprint IC_INA240A1DR_SOIC8
pins: 1 IN-, 2 GND, 3 REF2, 4 NC, 5 OUT, 6 VS, 7 REF1, 8 IN+
text: _; +

## IC_INA240A2DR
designator U?, comment INA240A2DR
IC CURRENT SENSE 1 CIRCUIT 8SOIC; Manufacturer: Texas Instruments; Voltage - Supply: 2.7 - 5.5V; Current - Supply: 1.8mA; Part Number: INA240A2DR; Package: 8-SOIC; ComponentLink1Description: DIGIKEY; ComponentLink1URL: https://www.digikey.com/en/products/detail/texas-instruments/INA240A2DR/8538110
footprint IC_INA240A1DR_SOIC8
pins: 1 IN-, 2 GND, 3 REF2, 4 NC, 5 OUT, 6 VS, 7 REF1, 8 IN+
text: _; +

## IC_IR2184S
designator U?, comment IR2184S
Half-Bridge Driver; Manufacture: Infineon Technologies; Mouting Type: SMD; ComponentLink1Description: BLK; ComponentLink1URL: https://banlinhkien.com/ir2184s-sop8-600v-halfbridge-driver-1.4a1.8a-p6653151.html; ComponentLink2Description: Mouser; ComponentLink2URL: https://www.mouser.vn/ProductDetail/Infineon-Technologies/IR2184STRPBF?qs=ellYJlE8XiF5tKx1UCxEUw%3D%3D; Sort: Half-Bridge; Manufacture Part Number: IR2184S; MSL: 1; Temperature: -40°C ~ 150°C
footprint IC_IR2184S
pins: 1 IN, 2 ~{SD}, 3 COM, 4 LO, 5 VCC, 6 Vs, 7 HO, 8 Vb

## IC_LM317
designator U?, comment LM317
Linear Voltage Regulator IC Positive Adjustable 1 Output 1.5A TO-220; Manufacturer: Lumimax Optoelectronic Technology; Vin: 4.2V - 40V; Vout: 1.2V - 37V; Part Number: LM317; Current: 1.5A; Package: TO-220; ComponentLink1Description: BLK; ComponentLink1URL: https://banlinhkien.com/lm317t-to220-reg-ldo-adj-1.5a-p6651263.html; ComponentLink2Description: DIGIKEY; ComponentLink2URL: https://www.digikey.bg/en/products/detail/lumimax-optoelectronic-technology/LM317/24373406
footprint IC_LM7815
pins: 1 ADJ, 2 OUT, 3 IN

## IC_LM2902DT
designator U?, comment LM2902DT
IC OPAMP GP 4 CIRCUIT 14SOIC; Manufacturer: STMicroelectronics; Number of Circuits: 4; Output Type: Push-Pull; Gain Bandwidth Product: 800 kHz; Current - Input Bias: 20nA; Current - Output / Channel: 30mA; Voltage - Supply Span(Min-Max): 3-30V; Part Number: LM2902DT; Footprint/Package: 14-SOIC; Sort: OPAMP; ComponentLink1Description: DIGIKEY; ComponentLink1URL: https://www.digikey.com/en/products/detail/stmicroelectronics/LM2902DT/591659
footprint IC_LM2902DT_SOIC
part A pins: 1 OUT, 2 IN-, 3 IN+, 4 V+, 11 V-
part B pins: 5 IN+, 6 IN-, 7 OUT
part C pins: 8 OUT, 9 IN-, 10 IN+
part D pins: 12 IN+, 13 IN-, 14 OUT
part A text: Vcc+; Vcc-

## IC_LM4128AMF-3.0/NOPB
designator U?, comment LM4128AMF-3.0/NOPB
IC VREF SERIES 0.1% SOT23-5; Manufacturer: Texas Instruments; Sort: IC VREF; Vout: 3V; Current: 20 mA; Part Number: LM4128AMF-3.0/NOPB; Footprint/Package: SOT-23-THIN; Footprint type: SMD; Category: IC; ComponentLink1Description: DIGIKEY; ComponentLink1URL: https://www.digikey.com/en/products/detail/texas-instruments/LM4128AMF-3-0-NOPB/1247403
footprint IC_LM4128AMF-3.0/NOPB
pins: 1 N/C, 2 GND, 3 EN, 4 VIN, 5 VREF

## IC_LM5010AQ0MH/NOPB
designator U?, comment Part Number: LM5010AMH/NOPB  (hidden comment: LM5010AQ0MH/NOPB)
IC REG BUCK ADJ 1A 14HTSSOP; Manufacturer: Texas Instruments; Application_BuildNumber: LM5010AQ0MH/NOPB; Footprint/Package: 14-HTSSOP; Footprint type: SMD; Category: IC
footprint IC_LM5010AQ0MH/NOPB
pins: 1 NC_2, 2 SW (power), 3 BST (power), 4 ISEN, 5 SGND (power), 6 RTN (power), 7 NC_3, 8 NC_4, 9 FB, 10 SS, 11 RON_SD, 12 VCC (power), 13 VIN (power), 14 NC, 15 DAP (power)

## IC_LM5146
designator U?, comment LM5146
Buck Regulator Positive Output Step-Down DC-DC Controller IC 20-VQFN (3.5x4.5); Manufacturer: Texas Instruments; Part Number: LM5146RGYR; Sort: IC REG BUCK; MSL: 2; ComponentLink1Description: DIGIKEY; ComponentLink1URL: https://www.digikey.bg/en/products/detail/texas-instruments/LM5146RGYR/14544372
footprint IC_LM5146
pins: 1 EN/UVLO, 2 RT, 3 SS/TRK, 4 COMP, 5 FB, 6 AGND, 7 SYNCOUT, 8 SYNCIN, 9 NC, 10 PGOOD, 11 ILIM, 12 PGND, 13 LO, 14 VCC, 15 EP, 16 NC, 17 BST, 18 HO, 19 SW, 20 VIN, 21 EP

## IC_LM7815
designator IC?, comment LM7815
Linear Voltage Regulator IC Positive Fixed 1 Output 1A TO-220-3; Manufacturer: Texas Instruments; Part Number: LM7815CT/NOPB; Vin: 35V; Vout: 15V; Current: 1A; Package: TO-220-3
footprint IC_LM7815
pins: 1 IN, 2 GND, 3 OUT

## IC_LV14540DDAR
designator U?, comment LV14540DDAR
Buck Switching Regulator IC Positive Adjustable 0.8V 1 Output 5A 8-PowerSOIC (0.154", 3.90mm Width); Sort: IC Reg Buck; ComponentLink1Description: Aliexpress; ComponentLink1URL: https://vi.aliexpress.com/item/1005008065358411.html?spm=a2g0o.productlist.main.1.7e89Dx16Dx16m5&algo_pvid=ad094eb1-607a-4bec-86f1-b8c480b560e9&algo_exp_id=ad094eb1-607a-4bec-86f1-b8c480b560e9-0&pdp_ext_f=%7B%22order%22%3A%22-1%22%2C%22eval%22%3A%221%22%7D&pdp_npi=4%40dis%21VND%2162327%2162327%21%21%2117.30%2117.30%21%402140f53817468421014663818eb33d%2112000043513459686%21sea%21VN%214100105060%21X&curPageLogUid=bj85XK5ikHDZ&utparam-url=scene%3Asearch%7Cquery_from%3A; ComponentLink2Description: MOUSER; ComponentLink2URL: https://www.mouser.vn/ProductDetail/Texas-Instruments/LV14540DDAR?qs=GBLSl2Akiru4zvJrnTzNww%3D%3D; Package: 8-PowerSOIC
footprint IC_LV14540DDAR_SOIC
pins: 1 BOOT, 2 VIN, 3 EN, 4 RT/SYNC, 5 FB, 6 SS, 7 GND, 8 SW, 9 EXP

## IC_MAX485ESA+T
designator U?, comment MAX485ESA+T  (value not drawn)
IC TRANSCEIVER HALF 1/1 8SOIC; Description SEL: IC TRANSCEIVER HALF 1/1 8SOIC; Part Number: MAX485ESA+T; ComponentLink1Description: LKD; ComponentLink1URL: https://banlinhkiendientu.vn/max485-max485csa/; Sort: TRANSCEIVER; Package: 8-SOIC
footprint IC_MAX485_SOIC8
pins: 1 RO, 2 RE, 3 DE, 4 DI, 5 GND, 6 A, 7 B, 8 VCC

## IC_MAX490ESA+T
designator U?, comment MAX490ESA+T  (value not drawn)
IC TRANSCEIVER FULL 1/1 8SOIC; Description SEL: IC TRANSCEIVER FULL 1/1 8SOIC; Part Number: MAX490ESA+T; ComponentLink1Description: LKD; ComponentLink1URL: https://banlinhkiendientu.vn/max485-max485csa/; Sort: TRANSCEIVER; Package: 8-SOIC; ComponentLink2Description: DIGIKEY; ComponentLink2URL: https://www.digikey.com/en/products/detail/analog-devices-inc-maxim-integrated/MAX490ESA-T/1499401
footprint IC_MAX485_SOIC8
pins: 1 VCC, 2 RO, 3 DI, 4 GND, 5 Y, 6 Z, 7 B, 8 A

## IC_MPU9250
designator U?, comment MPU9250
Accelerometer, Gyroscope, Magnetometer, 9 Axis Sensor I2C, SPI Output; Sort: IMU; ComponentLink1Description: CXT; ComponentLink1URL: https://linhkien.cxtvn.com/6790-mpu-9250-imu-accelgyromag-i2cspi-24qfn.html; Package: 24-QFN
footprint IC_MPU9250
pins: 1 RESV, 2 NC, 3 NC, 4 NC, 5 NC, 6 NC, 7 AUX_CL, 8 VDDIO, 9 AD0/SDO, 10 REGOUT, 11 FSYNC, 12 INT, 13 VDD, 14 NC, 15 NC, 16 NC, 17 NC, 18 GND, 19 RESV, 20 RESV, 21 AUX_DA, 22 nCS, 23 SCL/SCLK, 24 SDA/SDI, 25 Exposed Pad

## IC_NCS20061SN2T1G
designator U?, comment NCS20061SN2T1G  Part Number: NCS20071SN2T1G
IC OPAMP GP 1 CIRCUIT 5TSOP; Manufacturer: onsemi; Current - Output / Channel: 25 mA; Voltage - Supply Span (Min): 3 V; Voltage - Supply Span (Max): 5.5 V; Footprint/Package: SOT-23-5; Sort: IC OPAMP; ComponentLink1Description: DIGIKEY; ComponentLink1URL: https://www.digikey.com/en/products/detail/onsemi/NCS20166SN2T1G/12180026
footprint IC_NCS20166SN2T1G
pins: 1 OUT, 2 V-, 3 IN+, 4 IN-, 5 V+
text: _; +

## IC_nRF24L01+
designator U?, comment nRF24L01+
Single Chip 2.4GHz Transceiver; Sort: RF; Package: QFN20 4X4
footprint IC_ nRF24L01+
pins: 1 CE, 2 CSN, 3 SCK, 4 MOSI, 5 MISO, 6 IRQ, 7 VDD, 8 VSS, 9 XC2, 10 XC1, 11 VDD_PA, 12 ANT1, 13 ANT2, 14 VSS, 15 VDD, 16 IREF, 17 VSS, 18 VDD, 19 DVDD, 20 VSS

## IC_ROE-0512S
designator U?, comment ROE-0512S
Isolated Module DC DC Converter 1 Output 12V 84mA 4.5V - 5.5V Input; Power: 1W; Description SEL: DC DC CONVERTER 12V 1W; Part Number: ROE-0512S; Input: 4.5V-5.5V; Output: 12V; Current: 84mA; ComponentLink1Description: DIGIKEY; ComponentLink1URL: https://www.digikey.com/en/products/detail/recom-power/ROE-0512S/5684098
footprint IC_ROE-0512S
pins: 1 GND (power), 2 VIN, 3 0V, 4 +VO

## IC_SN74LVC2G17DBVR
designator U?, comment SN74LVC2G17DBVR
IC BUF NON-INVERT 5.5V SC70-6; Mfr_Name: Texas Instruments; Mouting type: SMD; Sort: BUFF NON-INVERT; Manufacturer_Part_Number: SN74LVC2G17DBVR; MSL: 1; ComponentLink1Description: DIGIKEY; ComponentLink1URL: https://www.digikey.bg/en/products/detail/texas-instruments/SN74LVC2G17DBVR/479735; Package: SOT-23-6
footprint IC_SN74LVC2G17DBVR
pins: 1 1A, 2 GND, 3 2A, 4 2Y, 5 VCC, 6 1Y

## IC_SN74LVC3G17DCUR
designator U?, comment SN74LVC3G17DCUR
Buffer, Non-Inverting 3 Element 1 Bit per Element Push-Pull Output 8-VSSOP; Mfr_Name: Texas Instruments; Mouting type: SMD; Sort: BUFF NON-INVERT; Manufacturer_Part_Number: SN74LVC3G17DCUR; MSL: 1; ComponentLink1Description: CXT; ComponentLink1URL: https://linhkien.cxtvn.com/10332-sn74lvc3g17dcur-ic-buffer-non-invert-55v-8vssop.html; ComponentLink2Description: DIGIKEY; ComponentLink2URL: https://www.digikey.com/en/products/detail/texas-instruments/SN74LVC3G17DCUR/863652; Package: 8-VSSOP
footprint IC_SN74LVC3G17DCUR
pins: 1 1A, 2 3Y, 3 2A, 4 GND, 5 2Y, 6 3A, 7 1Y, 8 VCC

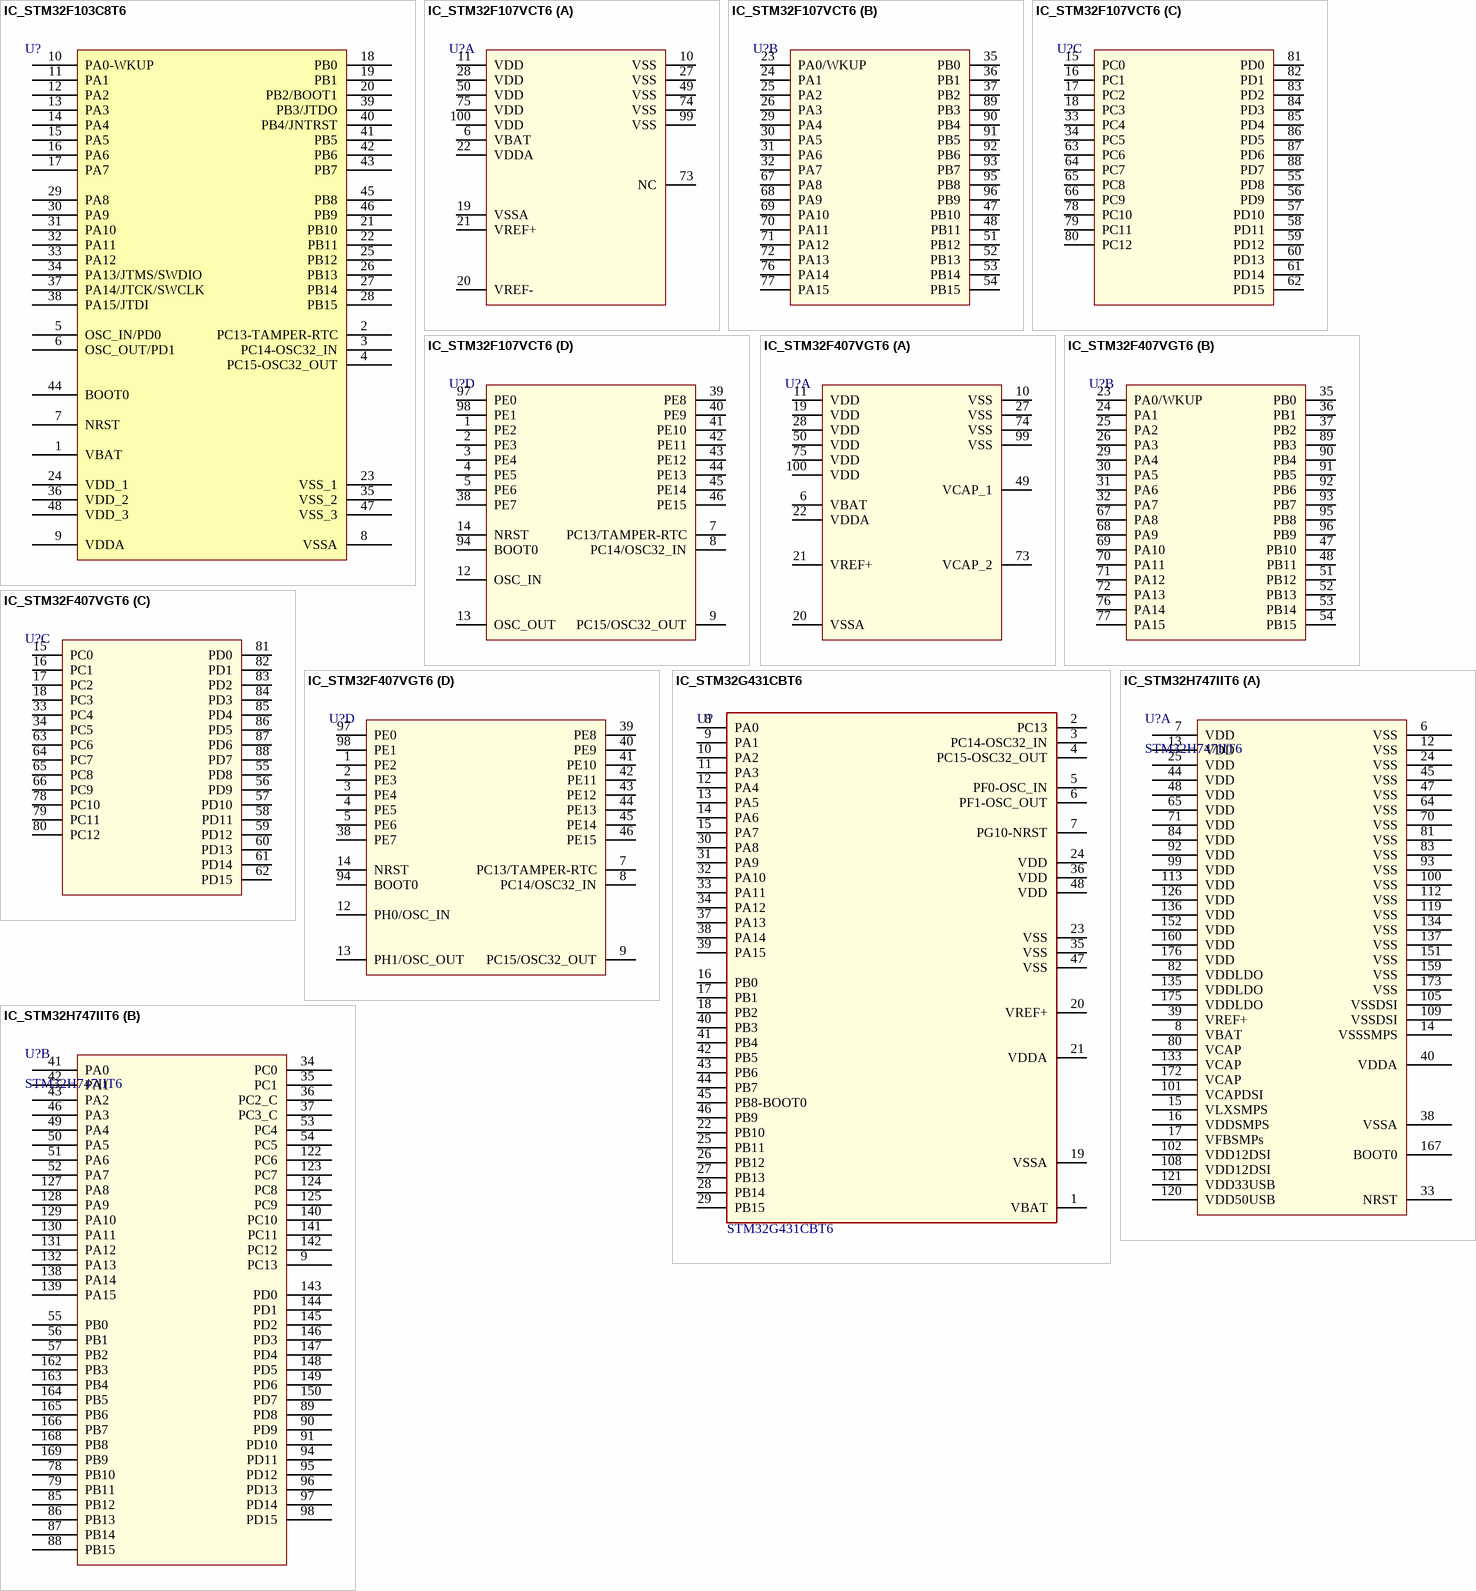
[diagram p5: symbols IC_STM32F103C8T6 to IC_STM32H747IIT6]

## IC_STM32F103C8T6
designator U?, comment STM32F103C8T6  (value not drawn)
STM32 ARM-based 32-bit MCU with 64 Kbytes Flash, 48-pin LQFP, Industrial Temperature; PackageReference: LQFP48; ComponentLink3Description: CXT; ComponentLink3URL: https://linhkien.cxtvn.com/1130-stm32f103c8t6-ic-mcu-32-bit-64kb-flash-48lqfp.html; Sort: MCU
footprint IC_STM32F103C8T6
pins: 1 VBAT, 2 PC13-TAMPER-RTC, 3 PC14-OSC32_IN, 4 PC15-OSC32_OUT, 5 OSC_IN/PD0, 6 OSC_OUT/PD1, 7 NRST, 8 VSSA, 9 VDDA, 10 PA0-WKUP, 11 PA1, 12 PA2, 13 PA3, 14 PA4, 15 PA5, 16 PA6, 17 PA7, 18 PB0, 19 PB1, 20 PB2/BOOT1, 21 PB10, 22 PB11, 23 VSS_1, 24 VDD_1, 25 PB12, 26 PB13, 27 PB14, 28 PB15, 29 PA8, 30 PA9, 31 PA10, 32 PA11, 33 PA12, 34 PA13/JTMS/SWDIO, 35 VSS_2, 36 VDD_2, 37 PA14/JTCK/SWCLK, 38 PA15/JTDI, 39 PB3/JTDO, 40 PB4/JNTRST, 41 PB5, 42 PB6, 43 PB7, 44 BOOT0, 45 PB8, 46 PB9, 47 VSS_3, 48 VDD_3

## IC_STM32F107VCT6
designator U?, comment STM32F107VCT6  (value not drawn)
Sort: MCU; ComponentLink1Description: CXT; ComponentLink1URL: https://linhkien.cxtvn.com/1565-stm32f107vct6-ic-mcu-32-bit-256kb-flash-lqfp100.html; ComponentLink2Description: MOUSER; ComponentLink2URL: https://www.mouser.vn/ProductDetail/STMicroelectronics/STM32F107VCT6?qs=1XJIe8X6XT1KmS9%252Be0Uqlg%3D%3D&srsltid=AfmBOook5THpVA88VouslcCXgHKMMoEBzzSPGBngcTiByRy0ecgl8l23; Package: 100LQFP
footprint IC_STM32F107VCT6
part A pins: 6 VBAT, 10 VSS, 11 VDD, 19 VSSA, 20 VREF-, 21 VREF+, 22 VDDA, 27 VSS, 28 VDD, 49 VSS, 50 VDD, 73 NC, 74 VSS, 75 VDD, 99 VSS, 100 VDD
part B pins: 23 PA0/WKUP, 24 PA1, 25 PA2, 26 PA3, 29 PA4, 30 PA5, 31 PA6, 32 PA7, 35 PB0, 36 PB1, 37 PB2, 47 PB10, 48 PB11, 51 PB12, 52 PB13, 53 PB14, 54 PB15, 67 PA8, 68 PA9, 69 PA10, 70 PA11, 71 PA12, 72 PA13, 76 PA14, 77 PA15, 89 PB3, 90 PB4, 91 PB5, 92 PB6, 93 PB7, 95 PB8, 96 PB9
part C pins: 15 PC0, 16 PC1, 17 PC2, 18 PC3, 33 PC4, 34 PC5, 55 PD8, 56 PD9, 57 PD10, 58 PD11, 59 PD12, 60 PD13, 61 PD14, 62 PD15, 63 PC6, 64 PC7, 65 PC8, 66 PC9, 78 PC10, 79 PC11, 80 PC12, 81 PD0, 82 PD1, 83 PD2, 84 PD3, 85 PD4, 86 PD5, 87 PD6, 88 PD7
part D pins: 1 PE2, 2 PE3, 3 PE4, 4 PE5, 5 PE6, 7 PC13/TAMPER-RTC, 8 PC14/OSC32_IN, 9 PC15/OSC32_OUT, 12 OSC_IN, 13 OSC_OUT, 14 NRST, 38 PE7, 39 PE8, 40 PE9, 41 PE10, 42 PE11, 43 PE12, 44 PE13, 45 PE14, 46 PE15, 94 BOOT0, 97 PE0, 98 PE1

## IC_STM32F407VGT6
designator U?, comment STM32F407VGT6  (value not drawn)
Sort: MCU; ComponentLink1Description: CXT; ComponentLink1URL: https://linhkien.cxtvn.com/1555-stm32f407vgt6ic-mcu-32bit-1mb-flash-100lqfp.html; Package: 100LQFP
footprint IC_STM32F107VCT6
part A pins: 6 VBAT, 10 VSS, 11 VDD, 19 VDD, 20 VSSA, 21 VREF+, 22 VDDA, 27 VSS, 28 VDD, 49 VCAP_1, 50 VDD, 73 VCAP_2, 74 VSS, 75 VDD, 99 VSS, 100 VDD
part B pins: 23 PA0/WKUP, 24 PA1, 25 PA2, 26 PA3, 29 PA4, 30 PA5, 31 PA6, 32 PA7, 35 PB0, 36 PB1, 37 PB2, 47 PB10, 48 PB11, 51 PB12, 52 PB13, 53 PB14, 54 PB15, 67 PA8, 68 PA9, 69 PA10, 70 PA11, 71 PA12, 72 PA13, 76 PA14, 77 PA15, 89 PB3, 90 PB4, 91 PB5, 92 PB6, 93 PB7, 95 PB8, 96 PB9
part C pins: 15 PC0, 16 PC1, 17 PC2, 18 PC3, 33 PC4, 34 PC5, 55 PD8, 56 PD9, 57 PD10, 58 PD11, 59 PD12, 60 PD13, 61 PD14, 62 PD15, 63 PC6, 64 PC7, 65 PC8, 66 PC9, 78 PC10, 79 PC11, 80 PC12, 81 PD0, 82 PD1, 83 PD2, 84 PD3, 85 PD4, 86 PD5, 87 PD6, 88 PD7
part D pins: 1 PE2, 2 PE3, 3 PE4, 4 PE5, 5 PE6, 7 PC13/TAMPER-RTC, 8 PC14/OSC32_IN, 9 PC15/OSC32_OUT, 12 PH0/OSC_IN, 13 PH1/OSC_OUT, 14 NRST, 38 PE7, 39 PE8, 40 PE9, 41 PE10, 42 PE11, 43 PE12, 44 PE13, 45 PE14, 46 PE15, 94 BOOT0, 97 PE0, 98 PE1

## IC_STM32G431CBT6
designator U?, comment STM32G431CBT6
IC MCU 32BIT 128KB FLASH 48LQFP; Manufacturer: STMicroelectronics; Category: IC; Footprint type: SMD; Footprint/Package: 48-LQFP; ComponentLink1Description: DIGIKEY; ComponentLink1URL: https://www.digikey.bg/en/products/detail/stmicroelectronics/STM32G431CBT6/10231567; Part Number: STM32G431CBT6
footprint IC_STM32G431CBT6
pins: 1 VBAT, 2 PC13, 3 PC14-OSC32_IN, 4 PC15-OSC32_OUT, 5 PF0-OSC_IN, 6 PF1-OSC_OUT, 7 PG10-NRST, 8 PA0, 9 PA1, 10 PA2, 11 PA3, 12 PA4, 13 PA5, 14 PA6, 15 PA7, 16 PB0, 17 PB1, 18 PB2, 19 VSSA, 20 VREF+, 21 VDDA, 22 PB10, 23 VSS, 24 VDD, 25 PB11, 26 PB12, 27 PB13, 28 PB14, 29 PB15, 30 PA8, 31 PA9, 32 PA10, 33 PA11, 34 PA12, 35 VSS, 36 VDD, 37 PA13, 38 PA14, 39 PA15, 40 PB3, 41 PB4, 42 PB5, 43 PB6, 44 PB7, 45 PB8-BOOT0, 46 PB9, 47 VSS, 48 VDD

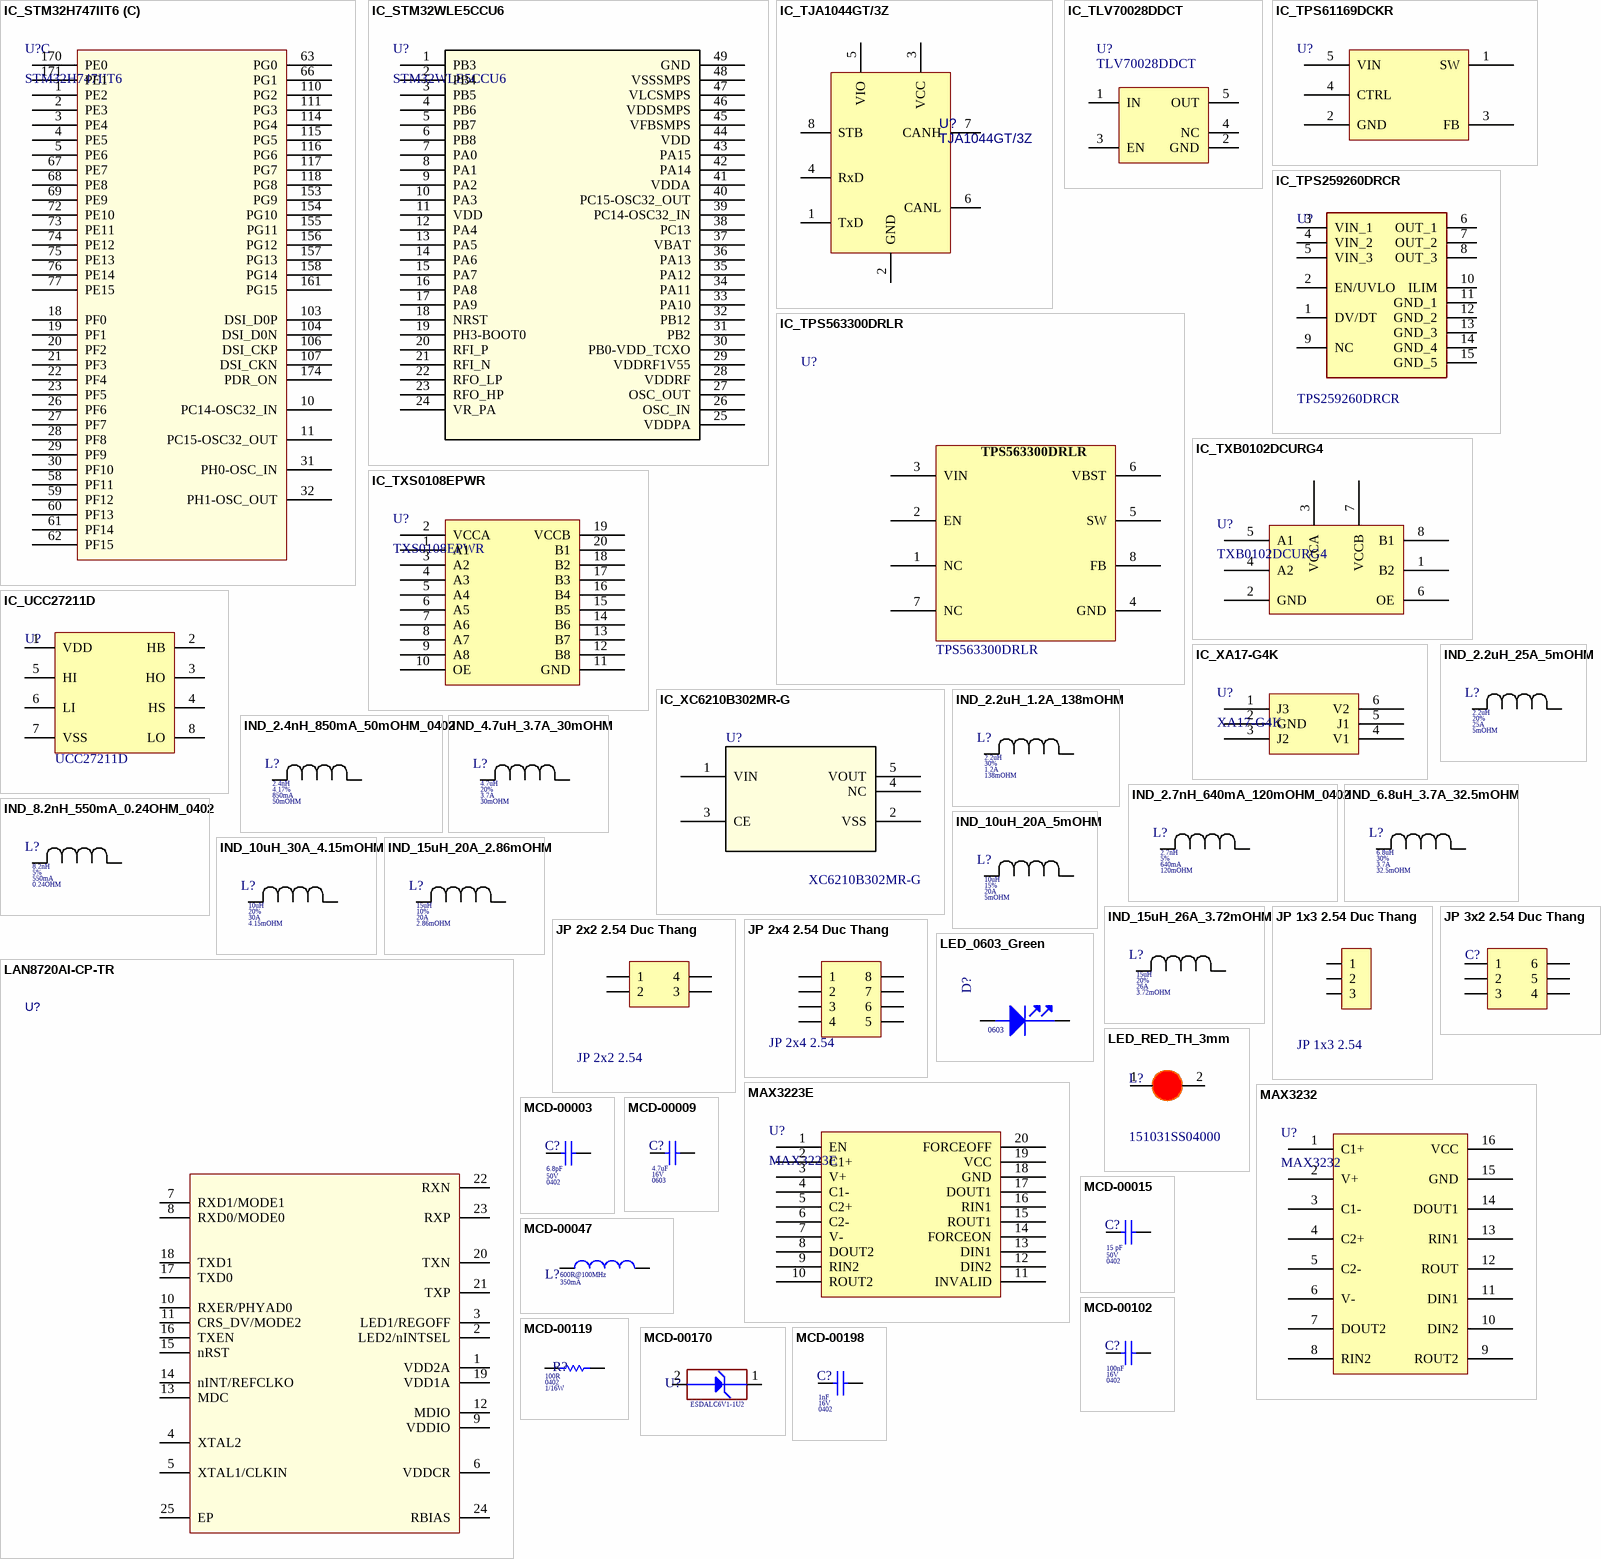
[diagram p6: symbols IC_STM32H747IIT6 to MCD-00198]

## IC_STM32H747IIT6
designator U?, comment STM32H747IIT6
IC MCU 32BIT 2MB FLASH 176LQFP; ComponentLink1Description: DIGIKEY; ComponentLink1URL: https://www.digikey.com/en/products/detail/stmicroelectronics/STM32H747IIT6/10326796?s=N4IgTCBcDaIMoBUCyBmMAJA7AFkwSTwQDYQBdAXyA; Package: 176-LQFP; Sort: MCU; Temperature: -40°C ~ 85°C; MSL: 3
footprint IC_STM32H747IIT6
part A pins: 6 VSS, 7 VDD, 8 VBAT, 12 VSS, 13 VDD, 14 VSSSMPS, 15 VLXSMPS, 16 VDDSMPS, 17 VFBSMPs, 24 VSS, 25 VDD, 33 NRST, 38 VSSA, 39 VREF+, 40 VDDA, 44 VDD, 45 VSS, 47 VSS, 48 VDD, 64 VSS, 65 VDD, 70 VSS, 71 VDD, 80 VCAP, 81 VSS, 82 VDDLDO, 83 VSS, 84 VDD, 92 VDD, 93 VSS, 99 VDD, 100 VSS, 101 VCAPDSI, 102 VDD12DSI, 105 VSSDSI, 108 VDD12DSI, 109 VSSDSI, 112 VSS, 113 VDD, 119 VSS, 120 VDD50USB, 121 VDD33USB, 126 VDD, 133 VCAP, 134 VSS, 135 VDDLDO, 136 VDD, 137 VSS, 151 VSS, 152 VDD, 159 VSS, 160 VDD, 167 BOOT0, 172 VCAP, 173 VSS, 175 VDDLDO, 176 VDD
part B pins: 9 PC13, 34 PC0, 35 PC1, 36 PC2_C, 37 PC3_C, 41 PA0, 42 PA1, 43 PA2, 46 PA3, 49 PA4, 50 PA5, 51 PA6, 52 PA7, 53 PC4, 54 PC5, 55 PB0, 56 PB1, 57 PB2, 78 PB10, 79 PB11, 85 PB12, 86 PB13, 87 PB14, 88 PB15, 89 PD8, 90 PD9, 91 PD10, 94 PD11, 95 PD12, 96 PD13, 97 PD14, 98 PD15, 122 PC6, 123 PC7, 124 PC8, 125 PC9, 127 PA8, 128 PA9, 129 PA10, 130 PA11, 131 PA12, 132 PA13, 138 PA14, 139 PA15, 140 PC10, 141 PC11, 142 PC12, 143 PD0, 144 PD1, 145 PD2, 146 PD3, 147 PD4, 148 PD5, 149 PD6, 150 PD7, 162 PB3, 163 PB4, 164 PB5, 165 PB6, 166 PB7, 168 PB8, 169 PB9
part C pins: 1 PE2, 2 PE3, 3 PE4, 4 PE5, 5 PE6, 10 PC14-OSC32_IN, 11 PC15-OSC32_OUT, 18 PF0, 19 PF1, 20 PF2, 21 PF3, 22 PF4, 23 PF5, 26 PF6, 27 PF7, 28 PF8, 29 PF9, 30 PF10, 31 PH0-OSC_IN, 32 PH1-OSC_OUT, 58 PF11, 59 PF12, 60 PF13, 61 PF14, 62 PF15, 63 PG0, 66 PG1, 67 PE7, 68 PE8, 69 PE9, 72 PE10, 73 PE11, 74 PE12, 75 PE13, 76 PE14, 77 PE15, 103 DSI_D0P, 104 DSI_D0N, 106 DSI_CKP, 107 DSI_CKN, 110 PG2, 111 PG3, 114 PG4, 115 PG5, 116 PG6, 117 PG7, 118 PG8, 153 PG9, 154 PG10, 155 PG11, 156 PG12, 157 PG13, 158 PG14, 161 PG15, 170 PE0, 171 PE1, 174 PDR_ON

## IC_STM32WLE5CCU6
designator U?, comment STM32WLE5CCU6
IC RF TXRX+MCU 802.15.4 48UFQFPN; Sort: MCU; ComponentLink1Description: Link; ComponentLink1URL: https://www.digikey.bg/en/products/detail/stmicroelectronics/STM32WLE5CCU6/13557445; Datasheet: https://www.mouser.vn/datasheet/2/389/stm32wle5c8-1903151.pdf; Package: 48UFQFPN
footprint IC_STM32WLE5CCU6
pins: 1 PB3, 2 PB4, 3 PB5, 4 PB6, 5 PB7, 6 PB8, 7 PA0, 8 PA1, 9 PA2, 10 PA3, 11 VDD, 12 PA4, 13 PA5, 14 PA6, 15 PA7, 16 PA8, 17 PA9, 18 NRST, 19 PH3-BOOT0, 20 RFI_P, 21 RFI_N, 22 RFO_LP, 23 RFO_HP, 24 VR_PA, 25 VDDPA, 26 OSC_IN, 27 OSC_OUT, 28 VDDRF, 29 VDDRF1V55, 30 PB0-VDD_TCXO, 31 PB2, 32 PB12, 33 PA10, 34 PA11, 35 PA12, 36 PA13, 37 VBAT, 38 PC13, 39 PC14-OSC32_IN, 40 PC15-OSC32_OUT, 41 VDDA, 42 PA14, 43 PA15, 44 VDD, 45 VFBSMPS, 46 VDDSMPS, 47 VLCSMPS, 48 VSSSMPS, 49 GND

## IC_TJA1044GT/3Z
designator U?, comment TJA1044GT/3Z
1/1 Transceiver Half CANbus 8-SO; Manufacturer: ON Semiconductor; Point: 8; Description SEL: IC TRANSCEIVER HALF 1/1 8SO; Part Number: TJA1044GT/3Z; ComponentLink1Description: DIGIKEY; ComponentLink1URL: https://www.digikey.bg/en/products/detail/nxp-usa-inc/TJA1044GT-3Z/7648357?s=N4IgTCBcDaICoCkCCBGADAFgwcTgegGYAtEAXQF8g; Sort: TRANSCEIVER; Package: 8-SOIC
footprint IC_TJA1044GT/3Z
pins: 1 TxD, 2 GND, 3 VCC, 4 RxD, 5 VIO, 6 CANL, 7 CANH, 8 STB

## IC_TLV70028DDCT
designator U?, comment TLV70028DDCT
Linear Voltage Regulator IC Positive Fixed 1 Output 200mA SOT-23-THIN; Manufacturer: Texas Instruments; Description SEL: IC REG LINEAR 2.8V 200MA SOT23-5; Voltage - Input (Max): 5.5V; Voltage - Output (Min/Fixed): 2.8V; Cross component: ME6211C28M5G-N; Sort: LDO; PartNumber: TLV70028DDCT; Current - Output: 200mA; Package: SOT-23-5; ComponentLink1Description: DIGIKEY; ComponentLink1URL: https://www.digikey.com/en/products/detail/texas-instruments/TLV70028DDCT/2176435
footprint IC_TLV70028DDCT
pins: 1 IN "Input supply voltage", 2 GND "Ground", 3 EN "Enable input", 4 NC "No connected", 5 OUT "Regulated output voltage"

## IC_TPS61169DCKR
designator U?, comment TPS61169DCKR  (value not drawn)
IC LED DRV RGLTR PWM 1.8A SC70-5; Sort: LED DRV; ComponentLink1Description: New link; ComponentLink1URL: https://www.digikey.bg/en/products/detail/texas-instruments/TPS61169DCKR/5048578?s=N4IgTCBcDaIC4AcDOA2AjGlBOAJgYwGsAnEAXQF8g; Package: SC70-5
footprint IC_TPS61169DCKR - duplicate
pins: 1 SW, 2 GND, 3 FB, 4 CTRL, 5 VIN

## IC_TPS259260DRCR
designator U?, comment TPS259260DRCR
IC ELECTRONIC FUSE 15% 10VSON; ComponentLink1Description: New link; ComponentLink1URL: https://www.digikey.bg/en/products/detail/texas-instruments/TPS259260DRCR/5481851?s=N4IgTCBcDaICoAUDKYCsBOMA2ADAEQCUBhAkAXQF8g; Sort: ELECTRONIC FUSE; Package: 10VSON
footprint IC_TPS259260DRCR
pins: 1 DV/DT, 2 EN/UVLO, 3 VIN_1, 4 VIN_2, 5 VIN_3, 6 OUT_1, 7 OUT_2, 8 OUT_3, 9 NC, 10 ILIM, 11 GND_1, 12 GND_2, 13 GND_3, 14 GND_4, 15 GND_5

## IC_TPS563300DRLR
designator U?, comment TPS563300DRLR
IC REG BUCK ADJ 3A SOT583; Manufacture 1: Texas Instruments; Mouting Type: SMD; Packing: Reel; MSL: 1; Package: SOT-583; Sort: IC REG BUCK; Temperature: -40°C ~ 150°C; ComponentLink1Description: New link; ComponentLink1URL: https://www.digikey.com/en/products/detail/texas-instruments/TPS563300DRLR/16669318?s=N4IgTCBcDaICoAUDKBWAbAZgwBmwEQCUAZAkAXQF8g; Type: REG BUCK; Manufacture Part Number 1: TPS563300DRLR
footprint IC_TPS563300DRLR
pins: 1 NC, 2 EN, 3 VIN, 4 GND, 5 SW, 6 VBST, 7 NC, 8 FB

## IC_TXB0102DCURG4
designator U?, comment TXB0102DCURG4
IC TRANSLTR BIDIRECTIONAL 8VSSOP; ComponentLink1Description: New link; ComponentLink1URL: https://linhkien.cxtvn.com/6065-txb0102dcur-ic-trnsltr-bidirectional-8-vssop.html; ComponentLink2Description: New link 1; ComponentLink2URL: https://www.digikey.com/en/products/detail/texas-instruments/TXB0102DCURG4/1910148; Sort: TRANSLTR BIDIRECTIONAL; Package: 8VSSOP
footprint IC_TXB0102DCURG4
pins: 1 B2, 2 GND, 3 VCCA, 4 A2, 5 A1, 6 OE, 7 VCCB, 8 B1

## IC_TXS0108EPWR
designator U?, comment TXS0108EPWR
IC TRANSLATOR BIDIR 20TSSOP; ComponentLink1Description: New link; ComponentLink1URL: https://linhkien.cxtvn.com/5101-txs0108epwr-ic-translator-bidirectional-60mbps-20-tssop.html; ComponentLink2Description: New link 1; ComponentLink2URL: https://www.digikey.com/en/products/detail/texas-instruments/TXS0108EPWR/1775302; Sort: TRANSLATOR BIDIR; Package: 20TSSOP
footprint IC_TXS0108EPWR
pins: 1 A1, 2 VCCA, 3 A2, 4 A3, 5 A4, 6 A5, 7 A6, 8 A7, 9 A8, 10 OE, 11 GND, 12 B8, 13 B7, 14 B6, 15 B5, 16 B4, 17 B3, 18 B2, 19 VCCB, 20 B1

## IC_UCC27211D
designator U?, comment UCC27211D
Half-Bridge Gate Driver IC Non-Inverting 8-SOIC; Manufacturer: Texas Instruments; Sort: IC GATE DRVR; Number of Drivers: 2; Gate Type: MOSFET (N-Channel); Voltage - Supply: 8V ~ 17V; Current - Peak Output (Source, Sink): 4A, 4A; High Side Voltage - Max (Bootstrap): 120 V; Footprint/Package: SOIC-8; Input Type: Non-Inverting; ComponentLink1Description: DIGIKEY; ComponentLink1URL: https://www.digikey.com/en/products/detail/texas-instruments/UCC27211D/2793757; Part Number: UCC27211D
footprint IC_UCC27211D
pins: 1 VDD, 2 HB, 3 HO, 4 HS, 5 HI, 6 LI, 7 VSS, 8 LO

## IC_XA17-G4K
designator U?, comment XA17-G4K
20MHz~4GHz 25dB 0.7dB SOT-363 RF Switches ROHS; ComponentLink1Description: LCSC; ComponentLink1URL: https://www.lcsc.com/product-detail/RF-Switches_XINLUDA-XA17-G4K_C513494.html; Sort: RF Switch; Package: SOT-363
footprint IC_XA17-G4K
pins: 1 J3, 2 GND, 3 J2, 4 V1, 5 J1, 6 V2

## IC_XC6210B302MR-G
designator U?, comment XC6210B302MR-G
Linear Voltage Regulator IC Positive Fixed 1 Output 700mA SOT-25-5; Manufacturer: Torex Semiconductor Ltd; Description SEL: IC REG LINEAR 3V 700MA SOT25; Voltage - Input (Max): 6V; Voltage - Output (Min/Fixed): 3V; Sort: LDO; PartNumber: XC6210B302MR-G; Current - Output: 700mA; Package: SOT-25-5; ComponentLink1Description: DIGIKEY; ComponentLink1URL: https://www.digikey.com/en/products/detail/torex-semiconductor-ltd/XC6210B302MR-G/2138118
footprint IC_XC6210B302MR-G
pins: 1 VIN (power), 2 VSS (power), 3 CE, 4 NC, 5 VOUT

## IND_2.2uH_1.2A_138mOHM
designator L?, comment DCR: 138mOHM  Current: 1.2A  Tolerance: 30%  Inductance: 2.2uH  (hidden comment: LQM2MPN2R2NG0L)
2.2 µH Shielded Multilayer Inductor 1.2 A 138mOhm Max 0806 (2016 Metric); ComponentLink1Description: DIGIKEY; ComponentLink1URL: https://www.digikey.com/en/products/detail/murata-electronics/LQM2MPN2R2NG0L/4358099?s=N4IgTCBcDaIDIEUCyYkAUByYBKYMHEAGEAXQF8g
footprint IND_LQM2MPN2R2NG0L
pins: 1, 2

## IND_2.2uH_25A_5mOHM
designator L?, comment DCR: 5mOHM  Current: 25A  Tolerance: 20%  Inductance: 2.2uH  (hidden comment: NRS8040T6R8NJGJ)
2.2 µH Shielded Wirewound Inductor 25 A 5mOhm Max Nonstandard; ComponentLink1Description: DIGIKEY; ComponentLink1URL: https://www.digikey.com/en/products/detail/bourns-inc/SRP1245CC-2R2M/21263788
footprint IND_SRP1245CC-2R2M
pins: 1, 2

## IND_2.4nH_850mA_50mOHM_0402
designator L?, comment DCR: 50mOHM  Current: 850mA  Tolerance: 4.17%  Inductance: 2.4nH  (hidden comment: LQW15AN2N4B00D)
2.4 nH Unshielded Drum Core, Wirewound Inductor 850 mA 50mOhm Max 0402 (1005 Metric); ComponentLink1Description: New link; ComponentLink1URL: https://www.digikey.com/en/products/detail/murata-electronics/LQW15AN2N4B00D/2594882
footprint IND_0402
pins: 1, 2

## IND_2.7nH_640mA_120mOHM_0402
designator L?, comment DCR: 120mOHM  Current: 640mA  Tolerance: 5%  Inductance: 2.7nH  (hidden comment: CS0402-2N7J-S)
640mA 2.7nH ±5% 120mΩ 0402 Inductors (SMD) ROHS; ComponentLink1Description: New link; ComponentLink1URL: https://www.lcsc.com/product-detail/Inductors-SMD_Chilisin-Elec-CS0402-2N7J-S_C142181.html
footprint IND_0402
pins: 1, 2

## IND_4.7uH_3.7A_30mOHM
designator L?, comment DCR: 30mOHM  Current: 3.7A  Tolerance: 20%  Inductance: 4.7uH  (hidden comment: SDR0805-4R7ML)
4.7 µH Unshielded Drum Core, Wirewound Inductor 3.7 A 30mOhm Max Nonstandard; ComponentLink1Description: New link; ComponentLink1URL: https://www.digikey.com/en/products/detail/bourns-inc/SDR0805-4R7ML/2352815
footprint SDR0805-4R7ML
pins: 1, 2